# Altium integrated library IntegratedCircuit.IntLib: 182 symbols (part 2 of 3)
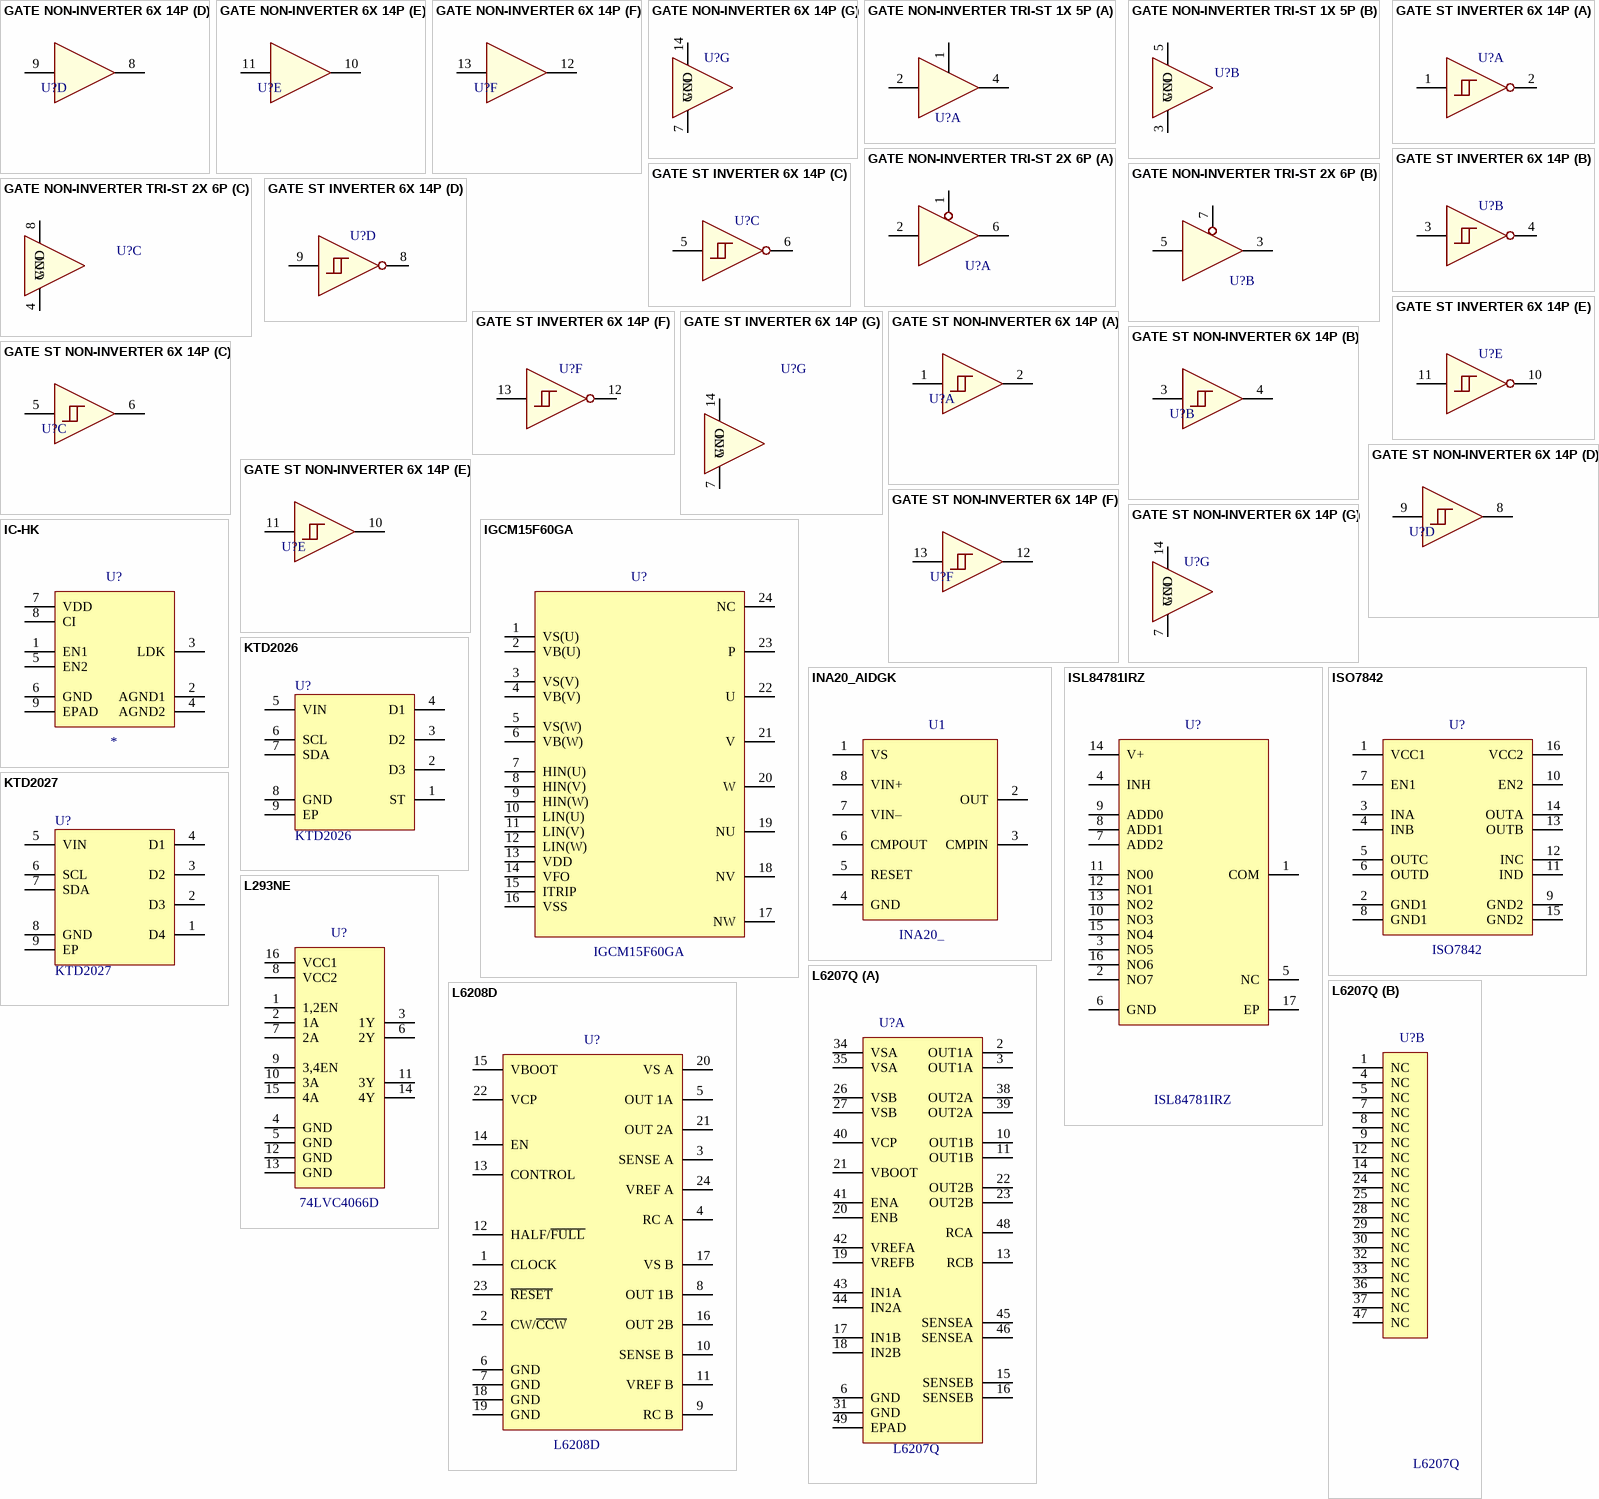
[diagram p10: symbols GATE NON-INVERTER 6X 14P to L6208D]

## L6207Q
designator U?
DMOS dual full bridge driver; Value: L6207Q
footprint QFN48 P0.5 T5.5X5.5 C7.0X7.0 H1.0 (QFN, 48-Leads, Body 7x7mm, Pitch 0.5mm, Thermal Pad 5.5x5.5mm, IPC High Density)
part A pins: 2 OUT1A, 3 OUT1A, 6 GND, 10 OUT1B, 11 OUT1B, 13 RCB, 15 SENSEB, 16 SENSEB, 17 IN1B, 18 IN2B, 19 VREFB, 20 ENB, 21 VBOOT, 22 OUT2B, 23 OUT2B, 26 VSB, 27 VSB, 31 GND, 34 VSA, 35 VSA, 38 OUT2A, 39 OUT2A, 40 VCP, 41 ENA, 42 VREFA, 43 IN1A, 44 IN2A, 45 SENSEA, 46 SENSEA, 48 RCA, 49 EPAD
part B pins: 1 NC, 4 NC, 5 NC, 7 NC, 8 NC, 9 NC, 12 NC, 14 NC, 24 NC, 25 NC, 28 NC, 29 NC, 30 NC, 32 NC, 33 NC, 36 NC, 37 NC, 47 NC

## L6208D
designator U?
DMOS driver for bipolar stepper motor; Value: L6208D
footprint SO24 P1.27 C7.5X15.4 H2.7 (SOIC, 24-Leads, Body 15.40x7.50mm, Pitch 1.27mm, IPC Medium Density)
pins: 1 CLOCK "Serial data 0. Connect to VCC through a pullup resistor.", 2 CW/~{CCW} "Serial clock 0. Connect to VCC through a pullup resistor.", 3 SENSE A "Serial data 1. Connect to VCC through a pullup resistor.", 4 RC A "Serial clock 1. Connect to VCC through a pullup resistor.", 5 OUT 1A "Serial data 2. Connect to VCC through a pullup resistor.", 6 GND "Serial clock 2. Connect to VCC through a pullup resistor.", 7 GND "Serial data 3. Connect to VCC through a pullup resistor.", 8 OUT 1B "Serial clock 3. Connect to VCC through a pullup resistor.", 9 RC B "Ground", 10 SENSE B "Serial data 4. Connect to VCC through a pullup resistor.", 11 VREF B "Serial clock 4. Connect to VCC through a pullup resistor.", 12 HALF/~{FULL} "Serial data 5. Connect to VCC through a pullup resistor.", 13 CONTROL "Serial clock 5. Connect to VCC through a pullup resistor.", 14 EN "Serial data 6. Connect to VCC through a pullup resistor.", 15 VBOOT "Serial clock 6. Connect to VCC through a pullup resistor.", 16 OUT 2B "Serial data 7. Connect to VCC through a pullup resistor.", 17 VS B "Serial clock 7. Connect to VCC through a pullup resistor.", 18 GND "Address input 2. Connect directly to VCC or ground.", 19 GND "Serial clock bus. Connect to VCC through a pullup resistor.", 20 VS A "Serial data bus. Connect to VCC through a pullup resistor.", 21 OUT 2A "Supply voltage", 22 VCP "Address input 0. Connect directly to VCC or ground.", 23 ~{RESET} "Address input 1. Connect directly to VCC or ground.", 24 VREF A "Active-low reset input. Connect to VCC through a pullup resistor, if not used."

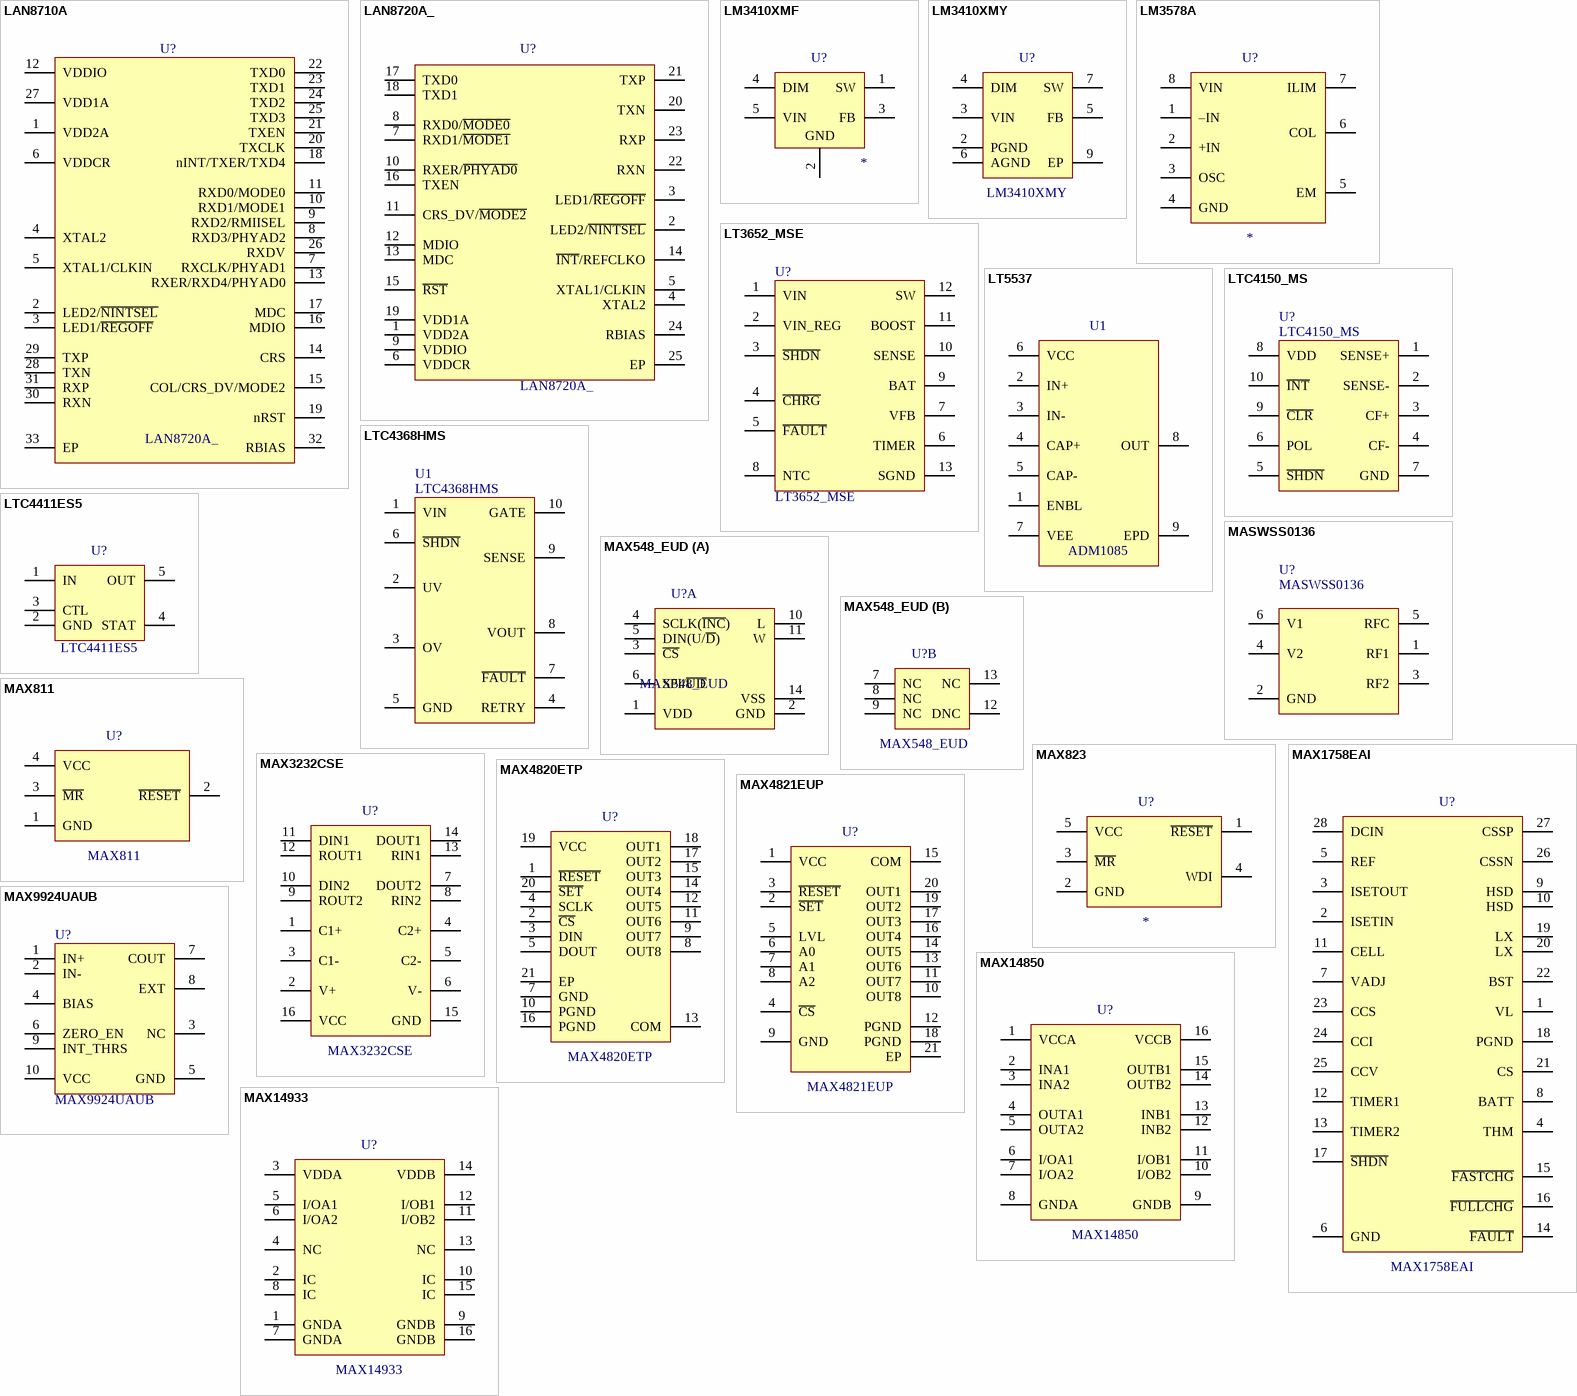
[diagram p4: symbols LAN8710A to MAX14933]

## LAN8710A
designator U?, comment LAN8720A_
RMII 10/100 Ethernet  Transceiver with HP Auto-MDIX Support; Value: LAN8720A_
footprint QFN32 P0.5 T3.2x3.2 C5.0X5.0 H1.0 (QFN32 Pitch 0.5mm, Thermal pad 3.2x3.2mm, Body 5X5mm, Heigh 1.0mm)
pins: 1 VDD2A, 2 LED2/~{NINTSEL}, 3 LED1/~{REGOFF}, 4 XTAL2, 5 XTAL1/CLKIN, 6 VDDCR, 7 RXCLK/PHYAD1, 8 RXD3/PHYAD2, 9 RXD2/RMIISEL, 10 RXD1/MODE1, 11 RXD0/MODE0, 12 VDDIO, 13 RXER/RXD4/PHYAD0, 14 CRS, 15 COL/CRS_DV/MODE2, 16 MDIO, 17 MDC, 18 nINT/TXER/TXD4, 19 nRST, 20 TXCLK, 21 TXEN, 22 TXD0, 23 TXD1, 24 TXD2, 25 TXD3, 26 RXDV, 27 VDD1A, 28 TXN, 29 TXP, 30 RXN, 31 RXP, 32 RBIAS, 33 EP

## LAN8720A_
designator U?
RMII 10/100 Ethernet  Transceiver with HP Auto-MDIX Support; Value: LAN8720A_
footprint QFN24 P0.5 T2.45X2.45 C4.0X4.0 H1.0 (QFN, 24-Leads, Body 4x4mm, Pitch 0.5mm, Thermal Pad 2.45x2.45mm, TI Recommended)
pins: 1 VDD2A "+3.3V Analog Port Power to Channel 2 and the internal regulator.", 2 LED2/~{NINTSEL}, 3 LED1/~{REGOFF}, 4 XTAL2 "External crystal output", 5 XTAL1/CLKIN, 6 VDDCR "Supplied by the on-chip regulator unless configured for regulator off mode via the REGOFF configuration strap.", 7 RXD1/~{MODE1}, 8 RXD0/~{MODE0}, 9 VDDIO "+1.6V to +3.6V variable I/O power", 10 RXER/~{PHYAD0}, 11 CRS_DV/~{MODE2}, 12 MDIO "Serial Management Interface data input/output", 13 MDC "Serial Management Interface clock", 14 ~{INT}/REFCLKO, 15 ~{RST} "System reset. This signal is active low.", 16 TXEN "Indicates that valid transmission data is presenton TXD[1:0].", 17 TXD0 "The MAC transmits data to the transceiver usingthis signal.", 18 TXD1 "The MAC transmits data to the transceiver usingthis signal.", 19 VDD1A "+3.3V Analog Port Power to Channel 1", 20 TXN "Transmit/Receive Negative Channel 1", 21 TXP "Transmit/Receive Positive Channel 1", 22 RXN "Transmit/Receive Negative Channel 2", 23 RXP "Transmit/Receive Positive Channel 2", 24 RBIAS "This pin requires connection of a 12.1k ohm (1%) resistor to ground.", 25 EP "Exposed pad (VSS) on bottom of package must be connected to ground"

## LM3410XMF
designator U?
Constant-Current Boost and SEPIC LED Driver; Value: *
footprint SOT23-5 P0.95 C1.6x3.0 H1.3 (SOT23, 5-Leads, Body 1.6x3.0mm, Pitch 0.95mm, IPC Medium Density)
pins: 1 SW, 2 GND, 3 FB, 4 DIM, 5 VIN

## LM3410XMY
designator U?
Constant-Current Boost and SEPIC LED Driver; Value: LM3410XMY
footprint TSOP8 P0.65 T1.85x1.73 C3.1x3.1 H1.1 (TSOP, 8-Leads, Body 3.1x3.1mm, Pitch 0.65mm, Thermal Pad 1.85x1.73mm, IPC Medium Density)
pins: 2 PGND, 3 VIN, 4 DIM, 5 FB, 6 AGND, 7 SW, 9 EP

## LM3578A
designator U?
Switching Regulator; Value: *
footprint SO8 P1.27 C4.0X5.0 H1.75 (8-Pin Small Outline Integrated Circuit 1.27 mm Pitch, IPC Medium Density)
pins: 1 –IN, 2 +IN, 3 OSC, 4 GND, 5 EM, 6 COL, 7 ILIM, 8 VIN

## LT3652_MSE
designator U?
Power Tracking 2A Battery Charger for Solar Power; Value: LT3652_MSE
footprint MSOP12 P0.65 T2.9x1.7 C3.0X4.0 H0.9 (MSOP, 12-Leads, Body 4.0x3.0mm, Pitch 0.65mm, Thermal Pad 2.9x1.7mm, IPC Medium Density)
pins: 1 VIN "Charger Input Supply. VIN operating range is 4.95V to 32V. VIN must be 3.3V greater than the programmed output battery float voltage (VBAT(FLT)) for reliable start-up. (VIN - VBAT(FLT)) >= 0.75V is the minimum operating (See Datasheet)", 2 VIN_REG "Input Voltage Regulation Reference. Maximum charge current is reduced when this pin is below 2.7V. Connecting a resistor divider from VIN to this pin enables programming of minimum operational VIN voltage. This is typically (See Datasheet)", 3 ~{SHDN} "Precision Threshold Shutdown Pin. The enable threshold is 1.2V (rising), with 120mV of input hysteresis. When in shutdown mode, all charging functions are disabled. The precision threshold allows use of the S\H\D\N\ pin to (See Datasheet)", 4 ~{CHRG} "Open-Collector Charger Status Output; typically pulled up through a resistor to a reference voltage. This status pin can be pulled up to voltages as high as VIN when disabled, and can sink currents up to 10mA when enabled. (See Datasheet)", 5 ~{FAULT} "Open-Collector Charger Status Output; typically pulled up through a resistor to a reference voltage. This status pin can be pulled up to voltages as high as VIN when disabled, and can sink currents up to 10mA when enabled. (See Datasheet)", 6 TIMER "End-Of-Cycle Timer Programming Pin. If a timer-based charge termination is desired, connect a capacitor from this pin to ground. Full charge end-of-cycle time (in hours) is programmed with this capacitor following the (See Datasheet)", 7 VFB "Battery Float Voltage Feedback Reference. The charge function operates to achieve a final float voltage of 3.3V on this pin. Output battery float voltage (VBAT(FLT)) is programmed using a resistor divider. VBAT(FLT) can be (See Datasheet)", 8 NTC "Battery Temperature Monitor Pin. This pin is the input to the NTC (Negative Temperature Coefficient) thermistor temperature monitoring circuit. This function is enabled by connecting a 10kohm, B = 3380 NTC thermistor from (See Datasheet)", 9 BAT "Charger Output Monitor Pin. Connect a 10uF decoupling capacitance (CBAT) to ground. Depending on application requirements, larger value decoupling capacitors may be required. The charge function operates to achieve the (See Datasheet)", 10 SENSE "Charge Current Sense Pin. Connect the inductor sense resistor (RSENSE) from the SENSE pin to the BAT pin. The voltage across this resistor sets the average charge current. The maximum charge current (ICHG(MAX)) corresponds (See Datasheet)", 11 BOOST "Bootstrapped Supply Rail for Switch Drive. This pin facilitates saturation of the switch transistor. Connect a 1uF or greater capacitor from the BOOST pin to the SW pin. Operating range of this pin is 0V to 8.5V, referenced (See Datasheet)", 12 SW "Switch Output Pin. This pin is the output of the charger switch, and corresponds to the emitter of the switch transistor. When enabled, the switch shorts the SW pin to the VIN supply. The drive circuitry for this switch is (See Datasheet)", 13 SGND "Ground Reference and Backside Exposed Lead Frame Thermal Connection. Solder the exposed lead frame to the PCB ground plane."

## LT5537
designator U1, comment ADM1085
Wide Dynamic Range RF/IF Log Detector; Value: ADM1085
footprint DFN8 P0.5 T0.6X1.2 C2.0X3.0 H0.8 (DFN 8-Leads, Body 2.00x3.00mm, Pitch 0.5mm)
pins: 1 ENBL, 2 IN+, 3 IN-, 4 CAP+, 5 CAP-, 6 VCC, 7 VEE, 8 OUT, 9 EPD

## LTC4150_MS
designator U?
Coulomb Counter/Battery Gas Gauge; Value: LTC4150_MS
footprint MSOP10 P0.5 C3.0X3.0 H1.1 (MSOP, 10-Leads, Body 3.0x3.0mm, Pitch 0.50mm, IPC Medium Density)
pins: 1 SENSE+ "Positive Sense Input. This is the noninverting current sense input. Connect SENSE+ to the load and charger side of the sense resistor. Full-scale current sense input is 50mV. SENSE+ must be within 60mV of VDD for proper (See Datasheet)", 2 SENSE- "Negative Sense Input. This is the inverting current sense input. Connect SENSE- to the positive battery terminal side of the sense resistor. Full-scale current sense input is 50mV. SENSE- must be within 60mV of VDD for (See Datasheet)", 3 CF+ "Filter Capacitor Positive Input. A capacitor connected between CF + and CF - filters and averages noise and fast battery current variations. A 4.7uF value is recommended. If filtering is not desired, leave CF + and CF - (See Datasheet)", 4 CF- "Filter Capacitor Negative Input. A capacitor connected between CF + and CF - filters and averages noise and fast battery current variations. A 4.7uF value is recommended. If filtering is not desired, leave CF + and CF - (See Datasheet)", 5 ~{SHDN} "Shutdown Digital Input. When asserted low, S\H\D\N\ forces the LTC4150 into its low current consumption power-down mode and resets the part. In applications with logic supply VCC > VDD, a resistive divider must be used (See Datasheet)", 6 POL "Battery Current Polarity Open-Drain Output. POL indicates the most recent battery current polarity when I\N\T\ is high. A low state indicates the current is fl owing out of the battery while high impedance means the current (See Datasheet)", 7 GND "Ground. Connect directly to the negative battery terminal.", 8 VDD "Positive Power Supply. Connect to the load and charger side of the sense resistor. SENSE+ also connects to VDD. VDD operating range is 2.7V to 8.5V. Bypass VDD with 4.7uF capacitor.", 9 ~{CLR} "Clear Interrupt Digital Input. When asserted low for more than 20us, C\L\R\ resets I\N\T\ high. Charge counting is unaffected. I\N\T\ may be directly connected to C\L\R\. In this case the LTC4150 will capture each assertion (See Datasheet)", 10 ~{INT} "Charge Count Interrupt Open-Drain Output. I\N\T\ latches low every 1/(VSENSE • GVF) seconds and is reset by a low pulse at C\L\R\. I\N\T\ is an open-drain output and can be pulled up to any logic supply of up to 9V. I(See Datasheet)"

## LTC4368HMS
designator U1
100V UV/OV and Reverse Protection Controller with Bidirectional Circuit Breaker; Value: LTC4368HMS
footprint MSOP10 P0.5 C3.0X3.0 H1.1 (MSOP, 10-Leads, Body 3.0x3.0mm, Pitch 0.50mm, IPC Medium Density)
pins: 1 VIN, 2 UV, 3 OV, 4 RETRY, 5 GND, 6 ~{SHDN}, 7 ~{FAULT}, 8 VOUT, 9 SENSE, 10 GATE

## LTC4411ES5
designator U?
Ideal Diode; Value: LTC4411ES5
footprint SOT23-5 P0.95 C1.6x3.0 H1.3 (SOT23, 5-Leads, Body 1.6x3.0mm, Pitch 0.95mm, IPC Medium Density)
pins: 1 IN, 2 GND, 3 CTL, 4 STAT, 5 OUT

## MASWSS0136
designator U?
GaAs SPDT SwitchDC -3.0 GHz; Value: MASWSS0136
footprint SC70-6 P0.65 C1.4x2.2 H1.0 (SC70, 6-Leads, Body 2.2x1.40mm, Pitch 0.65mm, IPC Medium Density)
pins: 1 RF1, 2 GND, 3 RF2, 4 V2, 5 RFC, 6 V1

## MAX548_EUD
designator U?
10-Bit, Nonvolatile, Linear-Taper Digital  Potentiometers; Value: MAX548_EUD
footprint TSSOP14 P0.65 C4.4x5.0 H1.1 (TSSOP, 14-Leads, Body 5x4.4mm, Pitch 0.65mm, IPC Medium Density)
part A pins: 1 VDD "Positive Power-Supply Input (+2.7V =< VDD =< +5.25V). Bypass VDD to GND with a 0.1uF ceramic capacitor as close to the device as possible.", 2 GND "Ground", 3 ~{CS} "Active-Low Digital Input Chip Select", 4 SCLK(~{INC}), 5 DIN(U/~{D}), 6 SPI/~{UD} "Interface-Mode Select. Select serial SPI interface when SPI/UD = 1. Select serial up/down interface when SPI/UD = 0.", 10 L "Low Terminal", 11 W "Wiper Terminal", 14 VSS "Negative Power-Supply Input. For single-supply operation, connect VSS to GND. For dualsupply operation, -2.5V =< VSS =< -0.2V as long as (VDD - VSS) =< +5.25V. Bypass VSS to GND with a 0.1uF ceramic capacitor as close to the (See Datasheet)"
part B pins: 7 NC "No Connection. Not internally connected.", 8 NC "No Connection. Not internally connected.", 9 NC "No Connection. Not internally connected.", 12 DNC "Do Not Connect. Leave unconnected for proper operation.", 13 NC "No Connection. Not internally connected."

## MAX811
designator U?
4-Pin μP Voltage Monitors with Manual Reset Input; Value: MAX811
footprint SOT143 P1.9 C1.4X3.0 H1.1 (SOT143, 4-Leads, Body 1.4X3.0mm, Pitch 1.90mm, IPC Medium Density)
pins: 1 GND, 2 ~{RESET}, 3 ~{MR}, 4 VCC

## MAX823
designator U?
Microprocessor Supervisory Circuits; Value: *
footprint SC70-5 P0.65 C1.4x2.2 H1.0 (SC70, 5-Leads, Body 2.2x1.40mm, Pitch 0.65mm, IPC Medium Density)
footprint SOT23-5 P0.95 C1.6x3.0 H1.3 (SOT23, 5-Leads, Body 1.6x3.0mm, Pitch 0.95mm, IPC Medium Density)
pins: 1 ~{RESET}, 2 GND, 3 ~{MR}, 4 WDI, 5 VCC

## MAX1758EAI
designator U?
Stand-Alone, Switch-Mode  Li+ Battery Charger; Value: MAX1758EAI
footprint SSOP28 P0.65 C5.4X10.4 H2.0 (SOP, 28-Leads, Body 5.40X10.40mm, Pitch 0.65mm, IPC Medium Density)
pins: 1 VL, 2 ISETIN, 3 ISETOUT, 4 THM, 5 REF, 6 GND, 7 VADJ, 8 BATT, 9 HSD, 10 HSD, 11 CELL, 12 TIMER1, 13 TIMER2, 14 ~{FAULT}, 15 ~{FASTCHG}, 16 ~{FULLCHG}, 17 ~{SHDN}, 18 PGND, 19 LX, 20 LX, 21 CS, 22 BST, 23 CCS, 24 CCI, 25 CCV, 26 CSSN, 27 CSSP, 28 DCIN

## MAX3232CSE
designator U?
Low-Power, up to 1Mbps, True RS-232  Transceivers; Value: MAX3232CSE
footprint SO16 P1.27 C4.0x10.2 H1.75 (SOIC, 16-Leads, Body 4.0x10.20mm, Pitch 1.27mm, IPC Medium Density)
pins: 1 C1+, 2 V+, 3 C1-, 4 C2+, 5 C2-, 6 V-, 7 DOUT2, 8 RIN2, 9 ROUT2, 10 DIN2, 11 DIN1, 12 ROUT1, 13 RIN1, 14 DOUT1, 15 GND, 16 VCC

## MAX4820ETP
designator U?
8-Channel Relay Driver; Value: MAX4820ETP
footprint QFN20 P0.5 T2.05x2.05 C4.0x4.0 H0.85 (QFN20 P0.5 T2.05x2.0 C4.0x4.0 H0.85)
pins: 1 ~{RESET}, 2 ~{CS}, 3 DIN, 4 SCLK, 5 DOUT, 7 GND, 8 OUT8, 9 OUT7, 10 PGND, 11 OUT6, 12 OUT5, 13 COM, 14 OUT4, 15 OUT3, 16 PGND, 17 OUT2, 18 OUT1, 19 VCC, 20 ~{SET}, 21 EP

## MAX4821EUP
designator U?
Low-Power, up to 1Mbps, True RS-232  Transceivers; Value: MAX4821EUP
footprint TSSOP20 P0.65 T3.05X4.1 C6.5X4.0 H1.2 (TSOP, 20-Leads, Body 6.60x4.0mm, Pitch 0.65mm, IPC Medium Density)
pins: 1 VCC, 2 ~{SET}, 3 ~{RESET}, 4 ~{CS}, 5 LVL, 6 A0, 7 A1, 8 A2, 9 GND, 10 OUT8, 11 OUT7, 12 PGND, 13 OUT6, 14 OUT5, 15 COM, 16 OUT4, 17 OUT3, 18 PGND, 19 OUT2, 20 OUT1, 21 EP

## MAX9924UAUB
designator U?
Variable Reluctance Sensor Interfaces with / Differential Input and Adaptive Peak Threshold; Value: MAX9924UAUB
footprint MSOP10 P0.5 C3.0X3.0 H1.1 (MSOP, 10-Leads, Body 3.0x3.0mm, Pitch 0.50mm, IPC Medium Density)
pins: 1 IN+ "Noninverting Input", 2 IN- "Inverting Input", 3 NC "No Connection. Not internally connected.", 4 BIAS "Input Bias. Connect to an external resistor-divider and bypass to ground with a 0.1uF and 10uF capacitor.", 5 GND "Ground", 6 ZERO_EN "Zero-Crossing Enable. Mode configuration pin, internally pulled up to VCC with 10k ohm resistor.", 7 COUT "Comparator Output. Open-drain output, connect a 10k ohm pullup resistor from COUT to VPULLUP.", 8 EXT "External Reference Input. Leave EXT unconnected in Modes A1, A2. Apply an external voltage in Modes B, C.", 9 INT_THRS "Internal Adaptive Threshold. Mode configuration pin.", 10 VCC "Power Supply"

## MAX14850
designator U?
Six-Channel Digital Isolator; Value: MAX14850
footprint SO16 P1.27 C4.0x10.2 H1.75 (SOIC, 16-Leads, Body 4.0x10.20mm, Pitch 1.27mm, IPC Medium Density)
pins: 1 VCCA, 2 INA1, 3 INA2, 4 OUTA1, 5 OUTA2, 6 I/OA1, 7 I/OA2, 8 GNDA, 9 GNDB, 10 I/OB2, 11 I/OB1, 12 INB2, 13 INB1, 14 OUTB2, 15 OUTB1, 16 VCCB

## MAX14933
designator U?
Two-Channel, 2.75kVRMS I2C Isolator; Value: MAX14933
footprint SO16 P1.27 C4.0x10.2 H1.75 (SOIC, 16-Leads, Body 4.0x10.20mm, Pitch 1.27mm, IPC Medium Density)
pins: 1 GNDA, 2 IC, 3 VDDA, 4 NC, 5 I/OA1, 6 I/OA2, 7 GNDA, 8 IC, 9 GNDB, 10 IC, 11 I/OB2, 12 I/OB1, 13 NC, 14 VDDB, 15 IC, 16 GNDB

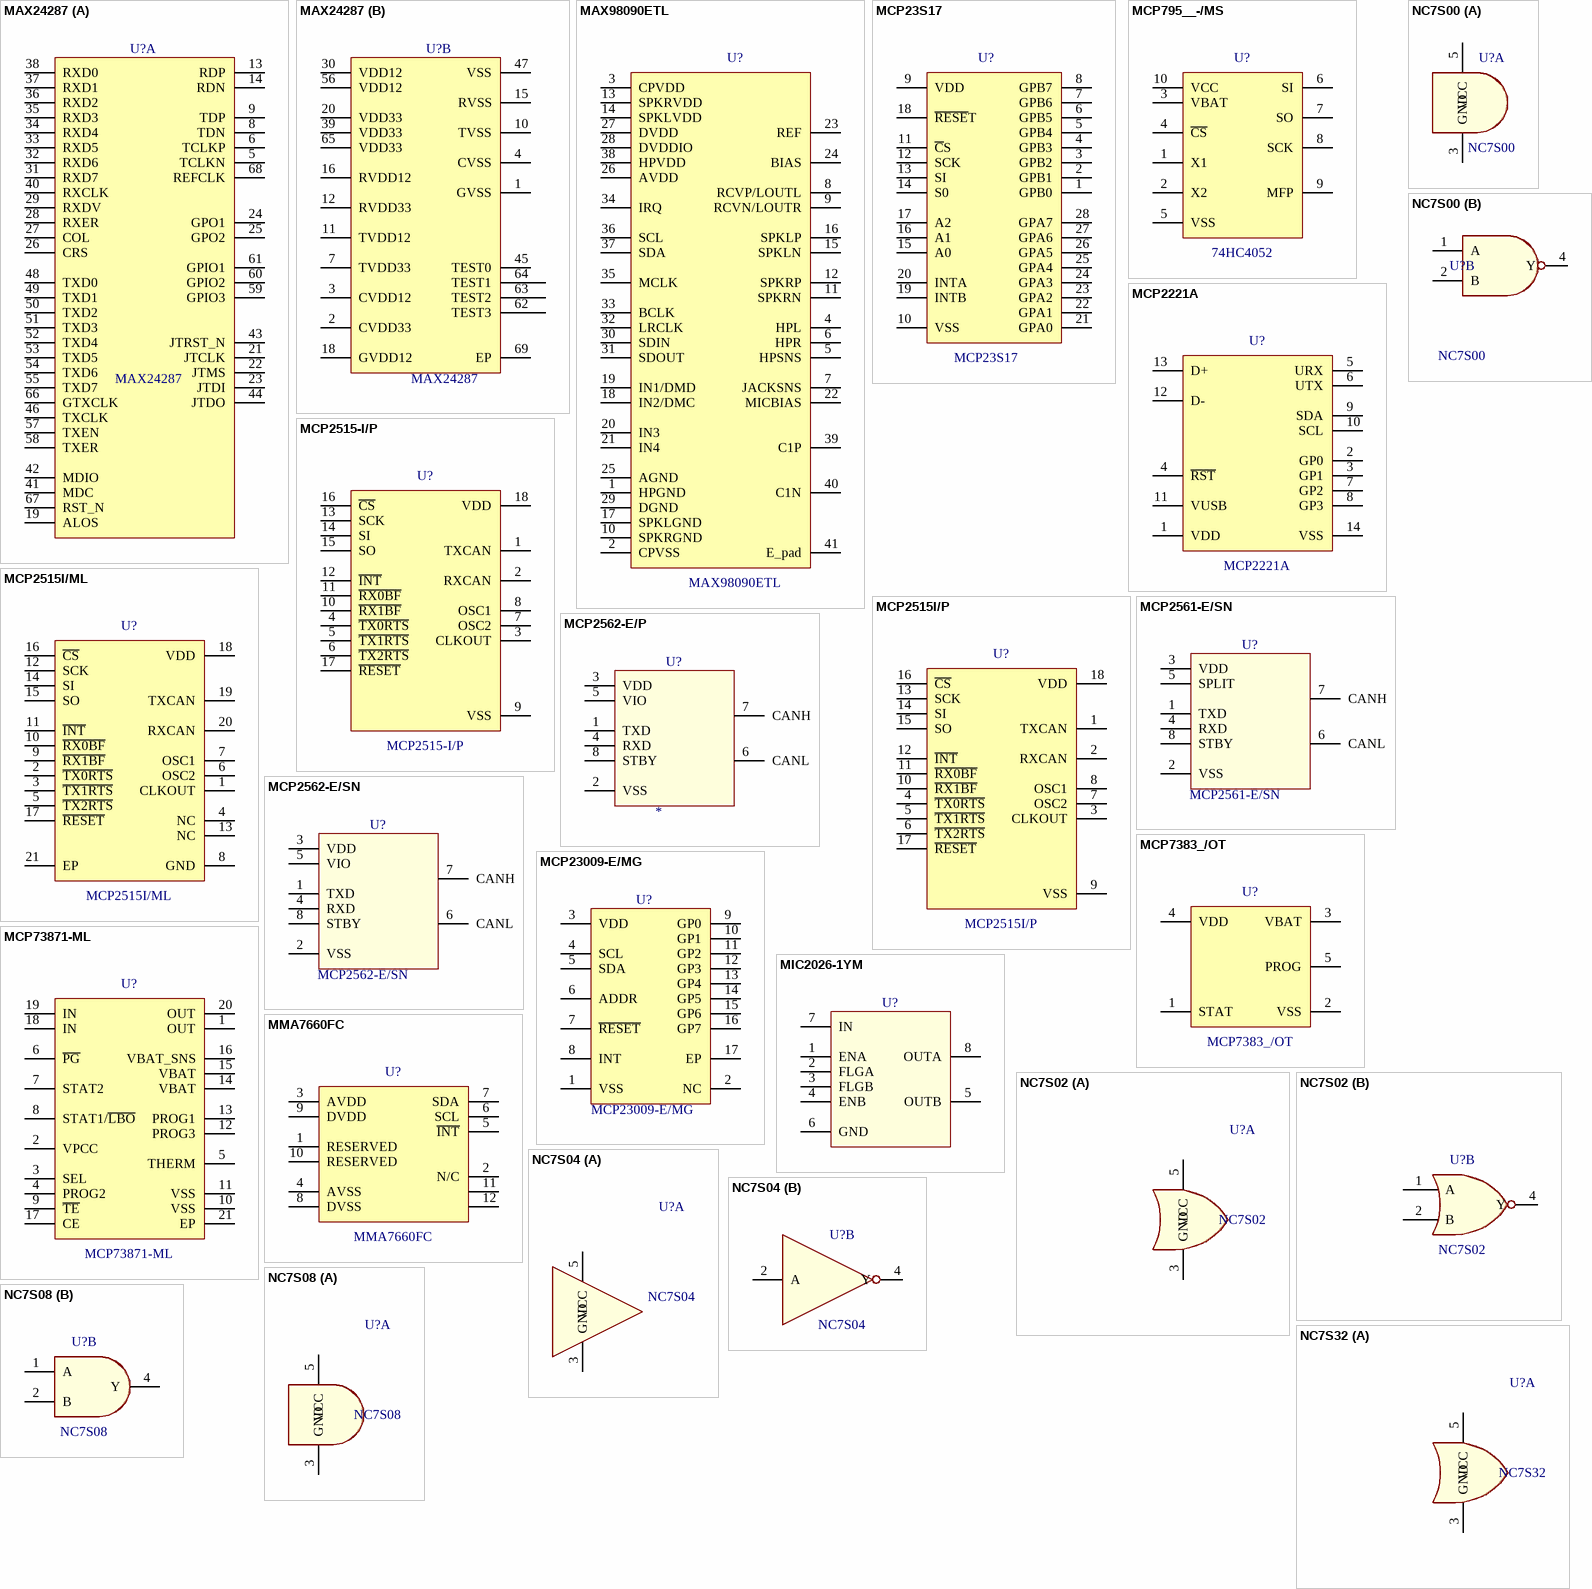
[diagram p5: symbols MAX24287 to NC7S32]

## MAX24287
designator U?
1Gbps Parallel to Serial MII Converter; Value: MAX24287
footprint QFN68 P0.4 T6.25x6.25 C8.0x8.0 H0.8 (QFN, 68-Leads, Body 8.00x8.00mm, Pitch 0.40mm, Thermal Pad 6.25x6.25mm, IPC Medium Density)
part A pins: 5 TCLKN, 6 TCLKP, 8 TDN, 9 TDP, 13 RDP, 14 RDN, 19 ALOS, 21 JTCLK, 22 JTMS, 23 JTDI, 24 GPO1, 25 GPO2, 26 CRS, 27 COL, 28 RXER, 29 RXDV, 31 RXD7, 32 RXD6, 33 RXD5, 34 RXD4, 35 RXD3, 36 RXD2, 37 RXD1, 38 RXD0, 40 RXCLK, 41 MDC, 42 MDIO, 43 JTRST_N, 44 JTDO, 46 TXCLK, 48 TXD0, 49 TXD1, 50 TXD2, 51 TXD3, 52 TXD4, 53 TXD5, 54 TXD6, 55 TXD7, 57 TXEN, 58 TXER, 59 GPIO3, 60 GPIO2, 61 GPIO1, 66 GTXCLK, 67 RST_N, 68 REFCLK
part B pins: 1 GVSS, 2 CVDD33, 3 CVDD12, 4 CVSS, 7 TVDD33, 10 TVSS, 11 TVDD12, 12 RVDD33, 15 RVSS, 16 RVDD12, 18 GVDD12, 20 VDD33, 30 VDD12, 39 VDD33, 45 TEST0, 47 VSS, 56 VDD12, 62 TEST3, 63 TEST2, 64 TEST1, 65 VDD33, 69 EP

## MAX98090ETL
designator U?
Ultra-Low Power Stereo Audio Codec; Value: MAX98090ETL
footprint QFN40 P0.4 T3.6X3.6 C5.0X5.0 H0.8 (QFN40 Pitch0.4 Thermal3.6X3.6 Case5.0X5.0 Height0.8)
pins: 1 HPGND, 2 CPVSS, 3 CPVDD, 4 HPL, 5 HPSNS, 6 HPR, 7 JACKSNS, 8 RCVP/LOUTL, 9 RCVN/LOUTR, 10 SPKRGND, 11 SPKRN, 12 SPKRP, 13 SPKRVDD, 14 SPKLVDD, 15 SPKLN, 16 SPKLP, 17 SPKLGND, 18 IN2/DMC, 19 IN1/DMD, 20 IN3, 21 IN4, 22 MICBIAS, 23 REF, 24 BIAS, 25 AGND, 26 AVDD, 27 DVDD, 28 DVDDIO, 29 DGND, 30 SDIN, 31 SDOUT, 32 LRCLK, 33 BCLK, 34 IRQ, 35 MCLK, 36 SCL, 37 SDA, 38 HPVDD, 39 C1P, 40 C1N, 41 E_pad

## MCP23S17
designator U?
16-Bit I/O Expander with Serial Interface; Value: MCP23S17
footprint SSOP28 P0.65 C5.4X10.4 H2.0 (SOP, 28-Leads, Body 10.40x5.40mm, Pitch 0.65mm, IPC Medium Density)
footprint SO28 P1.27 C7.5X17.9 H2.7 (SOIC, 28-Leads, Body 17.9x7.50mm, Pitch 1.27mm, IPC Medium Density)
pins: 1 GPB0, 2 GPB1, 3 GPB2, 4 GPB3, 5 GPB4, 6 GPB5, 7 GPB6, 8 GPB7, 9 VDD, 10 VSS, 11 ~{C}S, 12 SCK, 13 SI, 14 S0, 15 A0, 16 A1, 17 A2, 18 ~{RESE}T, 19 INTB, 20 INTA, 21 GPA0, 22 GPA1, 23 GPA2, 24 GPA3, 25 GPA4, 26 GPA5, 27 GPA6, 28 GPA7

## MCP795__-/MS
designator U?, comment 74HC4052
3V SPI Real-Time Clock Calendar with Battery Switchover; Value: 74HC4052
footprint MSOP10 P0.5 C3.0X3.0 H1.1 (MSOP, 10-Leads, Body 3.0x3.0mm, Pitch 0.50mm, IPC Medium Density)
pins: 1 X1, 2 X2, 3 VBAT, 4 ~{CS}, 5 VSS, 6 SI, 7 SO, 8 SCK, 9 MFP, 10 VCC

## MCP2221A
designator U?
USB2.0 toI2C/UART Protocol Converter with GPIO; Value: MCP2221A
footprint SO14 P1.27 C4.0X8.8 H1.75 (SOIC, 14-Leads, Body 4.0X8.8mm, Pitch 1.27mm, IPC Medium Density)
pins: 1 VDD, 2 GP0, 3 GP1, 4 ~{RST}, 5 URX, 6 UTX, 7 GP2, 8 GP3, 9 SDA, 10 SCL, 11 VUSB, 12 D-, 13 D+, 14 VSS

## MCP2515-I/P
designator U?
Stand-Alone CAN Controller with SPI Interface; Value: MCP2515-I/P
footprint DIP18 P2.54 W7.62 H5.0 (14-Pin Dual in Line Integrated Circuit 2.54 Pitch, 7.62 Width, Case 22.4x6mm)
pins: 1 TXCAN, 2 RXCAN, 3 CLKOUT, 4 ~{TX0RTS}, 5 ~{TX1RTS}, 6 ~{TX2RTS}, 7 OSC2, 8 OSC1, 9 VSS, 10 ~{RX1BF}, 11 ~{RX0BF}, 12 ~{INT}, 13 SCK, 14 SI, 15 SO, 16 ~{CS}, 17 ~{RESET}, 18 VDD

## MCP2515I/ML
designator U?
Stand-Alone CAN Controller with SPI Interface; Value: MCP2515I/ML
footprint QFN20 P0.5 T2.05x2.05 C4.0x4.0 H0.85 (QFN20 P0.5 T2.05x2.0 C4.0x4.0 H0.85)
pins: 1 CLKOUT, 2 ~{TX0RTS}, 3 ~{TX1RTS}, 4 NC, 5 ~{TX2RTS}, 6 OSC2, 7 OSC1, 8 GND, 9 ~{RX1BF}, 10 ~{RX0BF}, 11 ~{INT}, 12 SCK, 13 NC, 14 SI, 15 SO, 16 ~{CS}, 17 ~{RESET}, 18 VDD, 19 TXCAN, 20 RXCAN, 21 EP

## MCP2515I/P
designator U?
Stand-Alone CAN Controller with SPI Interface; Value: MCP2515I/P
footprint DIP18 P2.54 W7.62 H5.0 (14-Pin Dual in Line Integrated Circuit 2.54 Pitch, 7.62 Width, Case 22.4x6mm)
pins: 1 TXCAN, 2 RXCAN, 3 CLKOUT, 4 ~{TX0RTS}, 5 ~{TX1RTS}, 6 ~{TX2RTS}, 7 OSC2, 8 OSC1, 9 VSS, 10 ~{RX1BF}, 11 ~{RX0BF}, 12 ~{INT}, 13 SCK, 14 SI, 15 SO, 16 ~{CS}, 17 ~{RESET}, 18 VDD

## MCP2561-E/SN
designator U?
High-Speed CAN Transceiver; Value: MCP2561-E/SN
footprint SO8 P1.27 C4.0X5.0 H1.75 (8-Pin Small Outline Integrated Circuit 1.27 mm Pitch, IPC Medium Density)
pins: 1 TXD, 2 VSS, 3 VDD, 4 RXD, 5 SPLIT, 6 CANL, 7 CANH, 8 STBY

## MCP2562-E/P
designator U?
High-Speed CAN Transceiver; Value: *
footprint DIP8 P2.54 W7.62 H5.0 (8-Pin Dual in Line Integrated Circuit 2.54 Pitch, 7.62 Width, Case 10x6mm)
pins: 1 TXD, 2 VSS, 3 VDD, 4 RXD, 5 VIO, 6 CANL, 7 CANH, 8 STBY

## MCP2562-E/SN
designator U?
High-Speed CAN Transceiver; Value: MCP2562-E/SN
footprint SO8 P1.27 C4.0X5.0 H1.75 (8-Pin Small Outline Integrated Circuit 1.27 mm Pitch, IPC Medium Density)
pins: 1 TXD, 2 VSS, 3 VDD, 4 RXD, 5 VIO, 6 CANL, 7 CANH, 8 STBY

## MCP7383_/OT
designator U?
3V SPI Real-Time Clock Calendar with Battery Switchover; Value: MCP7383_/OT
footprint SOT23-5 P0.95 C1.6x3.0 H1.3 (SOT23, 5-Leads, Body 1.6x3.0mm, Pitch 0.95mm, IPC Medium Density)
pins: 1 STAT, 2 VSS, 3 VBAT, 4 VDD, 5 PROG

## MCP23009-E/MG
designator U?
8-Bit I/O Expander with Open-Drain Outputs; Value: MCP23009-E/MG
footprint QFN16 P0.5 T1.5x1.5 C3.0x3.0 H1.0
pins: 1 VSS, 2 NC, 3 VDD, 4 SCL, 5 SDA, 6 ADDR, 7 ~{RESET}, 8 INT, 9 GP0, 10 GP1, 11 GP2, 12 GP3, 13 GP4, 14 GP5, 15 GP6, 16 GP7, 17 EP

## MCP73871-ML
designator U?
Li-Ion/Li-Po Battery Charge Management Controller; Value: MCP73871-ML
footprint QFN20 P0.5 T2.05x2.05 C4.0x4.0 H0.85 (QFN20 P0.5 T2.05x2.0 C4.0x4.0 H0.85)
pins: 1 OUT, 2 VPCC, 3 SEL, 4 PROG2, 5 THERM, 6 ~{PG}, 7 STAT2, 8 STAT1/~{LBO}, 9 ~{TE}, 10 VSS, 11 VSS, 12 PROG3, 13 PROG1, 14 VBAT, 15 VBAT, 16 VBAT_SNS, 17 CE, 18 IN, 19 IN, 20 OUT, 21 EP

## MIC2026-1YM
designator U?, comment value  (value not drawn)
Dual-Channel Power Distribution Switch; value: *
footprint SO8 P1.27 C4.0X5.0 H1.75 (8-Pin Small Outline Integrated Circuit 1.27 mm Pitch, IPC Medium Density)
pins: 1 ENA, 2 FLGA, 3 FLGB, 4 ENB, 5 OUTB, 6 GND, 7 IN, 8 OUTA

## MMA7660FC
designator U?
3-Axis Orientation/Motion  Detection Sensor ±1.5 g; Value: MMA7660FC
footprint DFN-COL 12 P0.5 C3.0X3.0 H1.0 (DUAL FLAT NO LEAD COL PACKAGE 12-Leads, Body 3.00x3.00mm, Pitch 0.50mm)
pins: 1 RESERVED, 2 N/C, 3 AVDD, 4 AVSS, 5 ~{INT}, 6 SCL, 7 SDA, 8 DVSS, 9 DVDD, 10 RESERVED, 11, 12

## NC7S00
designator U?
Single 2 input NAND gate.; Value: NC7S00
footprint SOT23-5 P0.95 C1.6x3.0 H1.3 (SOT23, 5-Leads, Body 1.6x3.0mm, Pitch 0.95mm, IPC Medium Density)
footprint SC70-5 P0.65 C1.4x2.2 H1.0 (SC70, 5-Leads, Body 2.2x1.40mm, Pitch 0.65mm, IPC Medium Density)
part A pins: 3 GND, 5 VCC
part B pins: 1 A, 2 B, 4 Y

## NC7S02
designator U?
Single 2 input NOR gate.; Value: NC7S02
footprint SOT23-5 P0.95 C1.6x3.0 H1.3 (SOT23, 5-Leads, Body 1.6x3.0mm, Pitch 0.95mm, IPC Medium Density)
footprint SC70-5 P0.65 C1.4x2.2 H1.0 (SC70, 5-Leads, Body 2.2x1.40mm, Pitch 0.65mm, IPC Medium Density)
part A pins: 3 GND, 5 VCC
part B pins: 1 A, 2 B, 4 Y

## NC7S04
designator U?
Single Inverter; Value: NC7S04
footprint SOT23-5 P0.95 C1.6x3.0 H1.3 (SOT23, 5-Leads, Body 1.6x3.0mm, Pitch 0.95mm, IPC Medium Density)
part A pins: 3 GND, 5 VCC
part B pins: 2 A, 4 Y

## NC7S08
designator U?
Single 2 input AND gate.; Value: NC7S08
footprint SOT23-5 P0.95 C1.6x3.0 H1.3 (SOT23, 5-Leads, Body 1.6x3.0mm, Pitch 0.95mm, IPC Medium Density)
footprint SC70-5 P0.65 C1.4x2.2 H1.0 (SC70, 5-Leads, Body 2.2x1.40mm, Pitch 0.65mm, IPC Medium Density)
part A pins: 3 GND, 5 VCC
part B pins: 1 A, 2 B, 4 Y

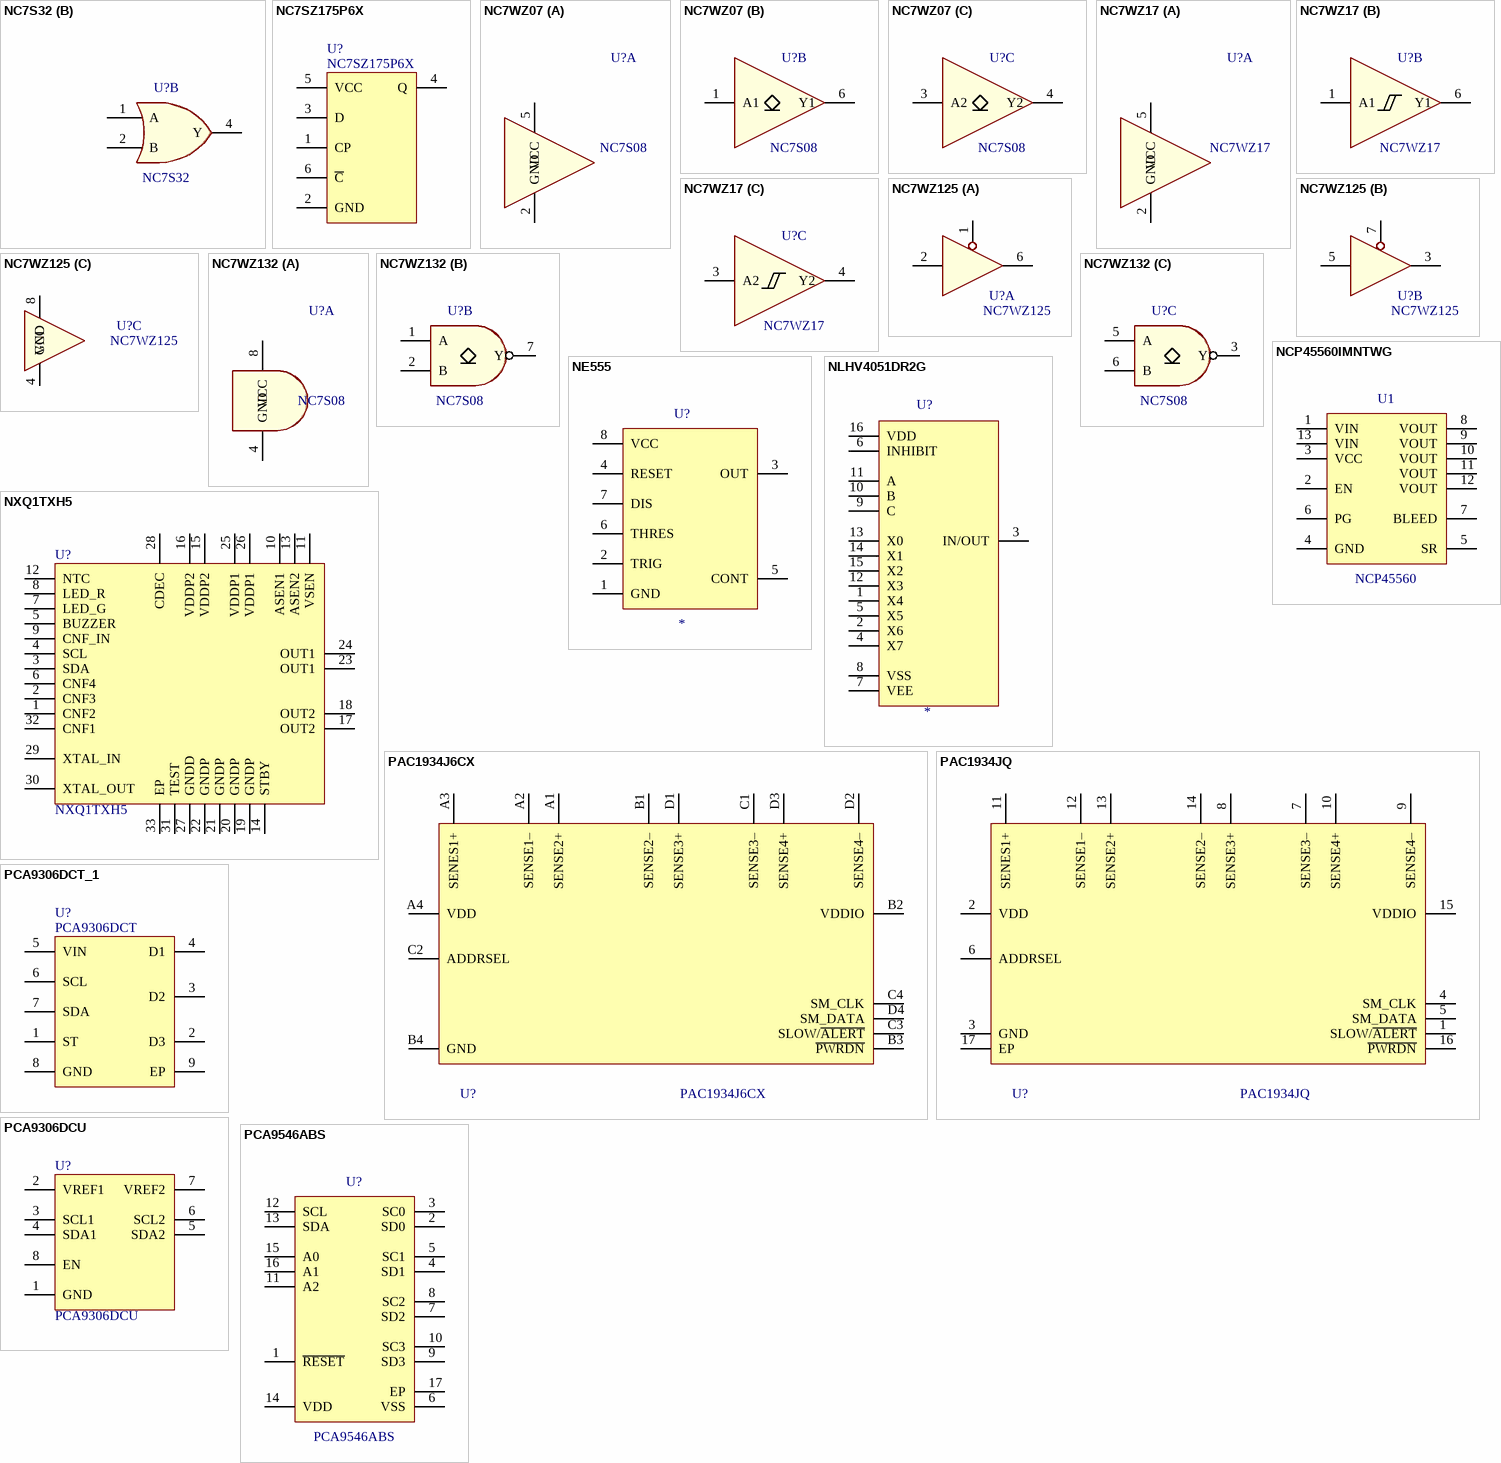
[diagram p6: symbols NC7S32 to PCA9546ABS]

## NC7S32
designator U?
Single 2 input OR gate.; Value: NC7S32
footprint SOT23-5 P0.95 C1.6x3.0 H1.3 (SOT23, 5-Leads, Body 1.6x3.0mm, Pitch 0.95mm, IPC Medium Density)
footprint SC70-5 P0.65 C1.4x2.2 H1.0 (SC70, 5-Leads, Body 2.2x1.40mm, Pitch 0.65mm, IPC Medium Density)
part A pins: 3 GND, 5 VCC
part B pins: 1 A, 2 B, 4 Y

## NC7SZ175P6X
designator U?
TinyLogic UHS D-Type Flip-Flop with Asynchronous Clear; Value: NC7SZ175P6X
footprint SC70-6 P0.65 C1.4x2.2 H1.0 (SC70, 6-Leads, Body 2.2x1.40mm, Pitch 0.65mm, IPC Medium Density)
pins: 1 CP, 2 GND, 3 D, 4 Q, 5 VCC, 6 ~{C}

## NC7WZ07
designator U?, comment NC7S08
Dual Buffer Open-Drain Outputs; Value: NC7S08
footprint SOT23-6 P0.95 C1.5x3.0 H1.3 (SOT23, 6-Leads, Body 1.6x3.0mm, Pitch 0.95mm, IPC Medium Density)
part A pins: 2 GND, 5 VCC
part B pins: 1 A1, 6 Y1
part C pins: 3 A2, 4 Y2

## NC7WZ17
designator U?
TinyLogic UHS Dual Buffer with Schmitt Trigger Inputs; Value: NC7WZ17
footprint SC70-6 P0.65 C1.4x2.2 H1.0 (SC70, 6-Leads, Body 2.2x1.40mm, Pitch 0.65mm, IPC Medium Density)
part A pins: 2 GND, 5 VCC
part B pins: 1 A1, 6 Y1
part C pins: 3 A2, 4 Y2

## NC7WZ125
designator U?
Dual Buffer Tri-STATE Output; Value: NC7WZ125
footprint MSOP8 P0.5 C2.1X2.3 H0.9 (TSSOP, 8-Leads, Body 2.10x2.30mm, Pitch 0.50mm, IPC Medium Density)
part A pins: 1 OE1, 2 A1, 6 ~{O0}
part B pins: 3 ~{O0}, 5 A2, 7 ~{OE2}
part C pins: 4 GND, 8 VCC

## NC7WZ132
designator U?, comment NC7S08
Dual 2 input NAND gate with Schmitt Trigger Inputs; Value: NC7S08
footprint MSOP8 P0.5 C2.1X2.3 H0.9 (TSSOP, 8-Leads, Body 2.10x2.30mm, Pitch 0.50mm, IPC Medium Density)
part A pins: 4 GND, 8 VCC
part B pins: 1 A, 2 B, 7 Y
part C pins: 3 Y, 5 A, 6 B

## NCP45560IMNTWG
designator U1, comment NCP45560
Controlled Load Switch with Low RON; Value: NCP45560
footprint DFN12 P0.5 T1.8X2.7 C3.0X3.0 H1.0 (SON, 12-Leads, Body 3.00x3.00mm, Pitch 0.50mm, Thermal Pad 2.70x1.8mm, IPC Medium Density)
pins: 1 VIN, 2 EN, 3 VCC, 4 GND, 5 SR, 6 PG, 7 BLEED, 8 VOUT, 9 VOUT, 10 VOUT, 11 VOUT, 12 VOUT, 13 VIN

## NE555
designator U?
Precision Timer; Value: *
footprint SO8 P1.27 C4.0X5.0 H1.75 (8-Pin Small Outline Integrated Circuit 1.27 mm Pitch, IPC Medium Density)
pins: 1 GND, 2 TRIG, 3 OUT, 4 RESET, 5 CONT, 6 THRES, 7 DIS, 8 VCC

## NLHV4051DR2G
designator U?
Analog  Multiplexers/Demultiplexers; Value: NLHV4051DR2G
footprint SO16 P1.27 C4.0x10.2 H1.75 (SOIC, 16-Leads, Body 4.0x10.20mm, Pitch 1.27mm, IPC Medium Density)
pins: 1 X4, 2 X6, 3 IN/OUT, 4 X7, 5 X5, 6 INHIBIT, 7 VEE, 8 VSS, 9 C, 10 B, 11 A, 12 X3, 13 X0, 14 X1, 15 X2, 16 VDD

## NXQ1TXH5
designator U?
One-chip 5 V Qi wireless transmitter; Value: NXQ1TXH5
footprint QFN32 P0.5 T3.2x3.2 C5.0X5.0 H1.0 (QFN32 Pitch 0.5mm, Thermal pad 3.2x3.2mm, Body 5X5mm, Heigh 1.0mm)
pins: 1 CNF2, 2 CNF3, 3 SDA, 4 SCL, 5 BUZZER, 6 CNF4, 7 LED_G, 8 LED_R, 9 CNF_IN, 10 ASEN1, 11 VSEN, 12 NTC, 13 ASEN2, 14 STBY, 15 VDDP2, 16 VDDP2, 17 OUT2, 18 OUT2, 19 GNDP, 20 GNDP, 21 GNDP, 22 GNDP, 23 OUT1, 24 OUT1, 25 VDDP1, 26 VDDP1, 27 GNDD, 28 CDEC, 29 XTAL_IN, 30 XTAL_OUT, 31 TEST, 32 CNF1, 33 EP

## PAC1934J6CX
designator U?
Four Channel DC Power/Energy Monitor with Accumulator; Value: PAC1934J6CX
footprint BGA16 P0.5 C2.2x2.2 H0.65 (BGA, 16-Leads, Body 2.2x2.2mm, Pitch 0.5mm)
pins: A1 SENSE2+, A2 SENSE1–, A3 SENES1+, A4 VDD, B1 SENSE2–, B2 VDDIO, B3 ~{PWRDN}, B4 GND, C1 SENSE3–, C2 ADDRSEL, C3 SLOW/~{ALERT}, C4 SM_CLK, D1 SENSE3+, D2 SENSE4–, D3 SENSE4+, D4 SM_DATA

## PAC1934JQ
designator U?
Four Channel DC Power/Energy Monitor with Accumulator; Value: PAC1934JQ
footprint QFN16 P0.65 T2.7x2.7 C4.0X4.0 H0.5
pins: 1 SLOW/~{ALERT}, 2 VDD, 3 GND, 4 SM_CLK, 5 SM_DATA, 6 ADDRSEL, 7 SENSE3–, 8 SENSE3+, 9 SENSE4–, 10 SENSE4+, 11 SENES1+, 12 SENSE1–, 13 SENSE2+, 14 SENSE2–, 15 VDDIO, 16 ~{PWRDN}, 17 EP

## PCA9306DCT_1
designator U?, comment PCA9306DCT
Dual Bidirectional I  2C Bus and SMBus Voltage-Level Translator; Value: PCA9306DCT
footprint uDFN8 P0.4 T1.45X0.8 C1.5X1.5 H0.5
pins: 1 ST, 2 D3, 3 D2, 4 D1, 5 VIN, 6 SCL, 7 SDA, 8 GND, 9 EP

## PCA9306DCU
designator U?
Dual Bidirectional I  2C Bus and SMBus Voltage-Level Translator; Value: PCA9306DCU
footprint VSSOP8 P0.65 C2.4X2.0 H0.9 (VSSO8 P0.65 C2.4X2.0 H0.9 Texas Instruments)
pins: 1 GND, 2 VREF1, 3 SCL1, 4 SDA1, 5 SDA2, 6 SCL2, 7 VREF2, 8 EN

## PCA9546ABS
designator U?
4-channel I2C-bus switch with reset; Value: PCA9546ABS
footprint QFN16 P0.65 T2.2x2.2 C4.0X4.0 H1.0
pins: 1 ~{RESET} "Active low reset input. Connect to VCC through a pullup resistor, if not used.", 2 SD0 "Serial data 0. Connect to VCC through a pullup resistor.", 3 SC0 "Serial clock 0. Connect to VCC through a pullup resistor.", 4 SD1 "Serial data 1. Connect to VCC through a pullup resistor.", 5 SC1 "Serial clock 1. Connect to VCC through a pullup resistor.", 6 VSS "Ground", 7 SD2 "Serial data 2. Connect to VCC through a pullup resistor.", 8 SC2 "Serial clock 2. Connect to VCC through a pullup resistor.", 9 SD3 "Serial data 3. Connect to VCC through a pullup resistor.", 10 SC3 "Serial clock 3. Connect to VCC through a pullup resistor.", 11 A2 "Address input 2. Connect directly to VCC or ground.", 12 SCL "Serial clock line. Connect to VCC through a pullup resistor.", 13 SDA "Serial data line. Connect to VCC through a pullup resistor.", 14 VDD "Supply power", 15 A0 "Address input 0. Connect directly to VCC or ground.", 16 A1 "Address input 1. Connect directly to VCC or ground.", 17 EP "Ground"

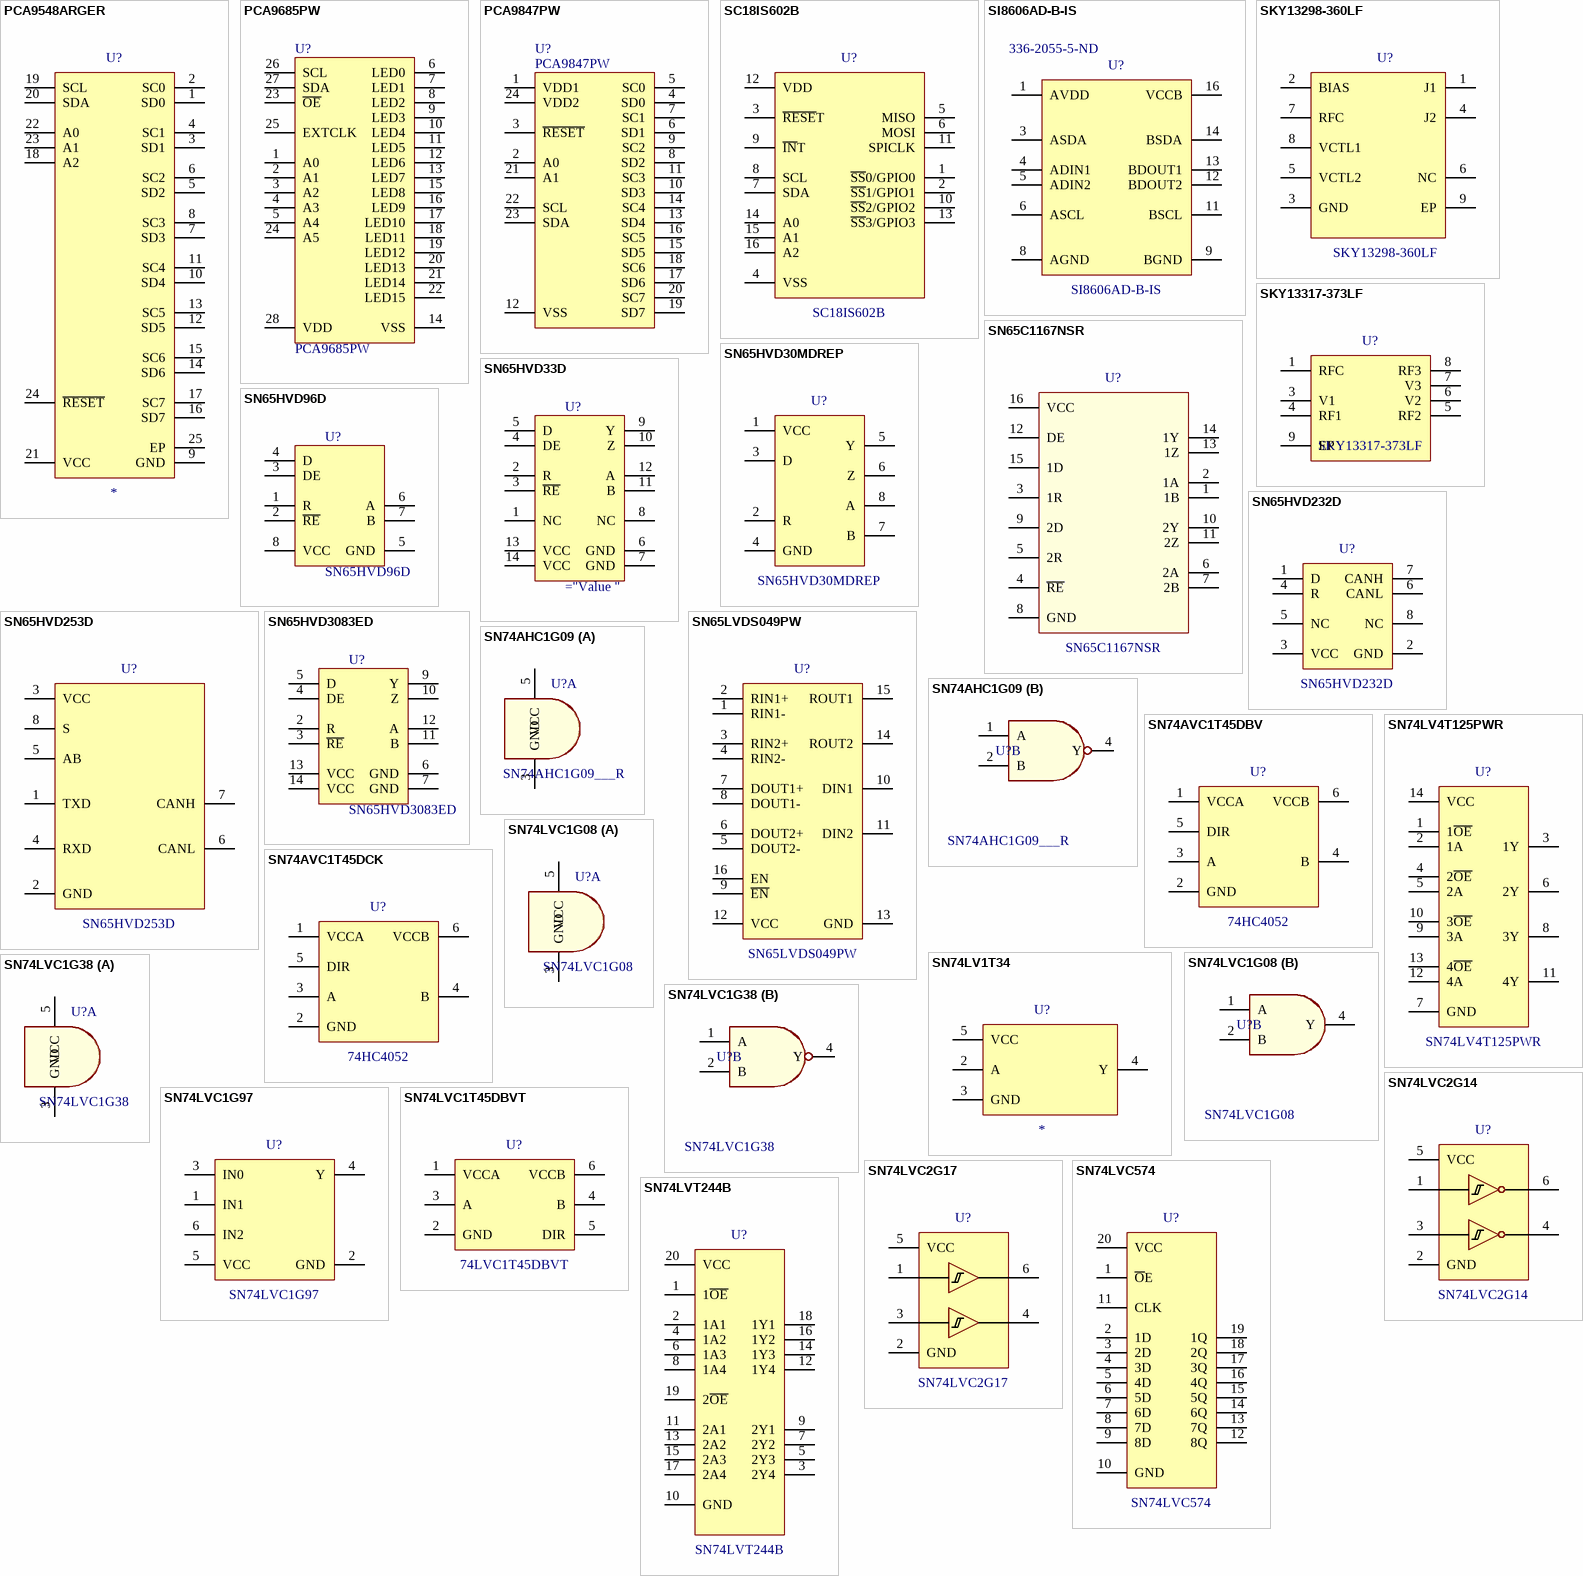
[diagram p7: symbols PCA9548ARGER to SN74LVT244B]

## PCA9548ARGER
designator U?
Low Voltage 8-Channel I2C Switch With Reset; Value: *
footprint QFN24 P0.5 T2.45X2.45 C4.0X4.0 H1.0 (QFN, 24-Leads, Body 4x4mm, Pitch 0.5mm, Thermal Pad 2.45x2.45mm, TI Recommended)
pins: 1 SD0 "Serial data 0. Connect to VCC through a pullup resistor.", 2 SC0 "Serial clock 0. Connect to VCC through a pullup resistor.", 3 SD1 "Serial data 1. Connect to VCC through a pullup resistor.", 4 SC1 "Serial clock 1. Connect to VCC through a pullup resistor.", 5 SD2 "Serial data 2. Connect to VCC through a pullup resistor.", 6 SC2 "Serial clock 2. Connect to VCC through a pullup resistor.", 7 SD3 "Serial data 3. Connect to VCC through a pullup resistor.", 8 SC3 "Serial clock 3. Connect to VCC through a pullup resistor.", 9 GND "Ground", 10 SD4 "Serial data 4. Connect to VCC through a pullup resistor.", 11 SC4 "Serial clock 4. Connect to VCC through a pullup resistor.", 12 SD5 "Serial data 5. Connect to VCC through a pullup resistor.", 13 SC5 "Serial clock 5. Connect to VCC through a pullup resistor.", 14 SD6 "Serial data 6. Connect to VCC through a pullup resistor.", 15 SC6 "Serial clock 6. Connect to VCC through a pullup resistor.", 16 SD7 "Serial data 7. Connect to VCC through a pullup resistor.", 17 SC7 "Serial clock 7. Connect to VCC through a pullup resistor.", 18 A2 "Address input 2. Connect directly to VCC or ground.", 19 SCL "Serial clock bus. Connect to VCC through a pullup resistor.", 20 SDA "Serial data bus. Connect to VCC through a pullup resistor.", 21 VCC "Supply voltage", 22 A0 "Address input 0. Connect directly to VCC or ground.", 23 A1 "Address input 1. Connect directly to VCC or ground.", 24 ~{RESET} "Active-low reset input. Connect to VCC through a pullup resistor, if not used.", 25 EP "Exposed Pad"

## PCA9685PW
designator U?
16-channel, 12-bit PWM Fm+ I2C-bus LED controller; Value: PCA9685PW
footprint TSSOP28 P0.65 C4.4x9.7 H1.2 (SOP, 28-Leads, Body 9.7x4.4mm, Pitch 0.65mm, IPC Medium Density)
pins: 1 A0 "address input 0", 2 A1 "address input 1", 3 A2 "address input 2", 4 A3 "address input 3", 5 A4 "address input 4", 6 LED0 "LED driver 0", 7 LED1 "LED driver 1", 8 LED2 "LED driver 2", 9 LED3 "LED driver 3", 10 LED4 "LED driver 4", 11 LED5 "LED driver 5", 12 LED6 "LED driver 6", 13 LED7 "LED driver 7", 14 VSS "supply ground", 15 LED8 "LED driver 8", 16 LED9 "LED driver 9", 17 LED10 "LED driver 10", 18 LED11 "LED driver 11", 19 LED12 "LED driver 12", 20 LED13 "LED driver 13", 21 LED14 "LED driver 14", 22 LED15 "LED driver 15", 23 ~{OE} "active LOW output enable", 24 A5 "address input 5", 25 EXTCLK "external clock input", 26 SCL "serial clock line", 27 SDA "serial data line", 28 VDD "supply voltage"

## PCA9847PW
designator U?
8-channel ultra-low voltage, Fm+ I2C-bus multiplexer; Value: PCA9847PW
footprint TSSOP24 P0.65 C4.4X7.8 H1.2 (TSOP, 24-Leads, Body 7.8x4.4mm, Pitch 0.65mm, IPC Medium Density)
pins: 1 VDD1, 2 A0, 3 ~{RESET}, 4 SD0, 5 SC0, 6 SD1, 7 SC1, 8 SD2, 9 SC2, 10 SD3, 11 SC3, 12 VSS, 13 SD4, 14 SC4, 15 SD5, 16 SC5, 17 SD6, 18 SC6, 19 SD7, 20 SC7, 21 A1, 22 SCL, 23 SDA, 24 VDD2

## SC18IS602B
designator U?
Dual 4 Channel analogue multiplexer/demultiplexer; Value: SC18IS602B
footprint TSSOP16 P0.65 C5.0x4.5 H1.1 (TSSOP-16 NXP)
pins: 1 ~{SS}0/GPIO0, 2 ~{SS}1/GPIO1, 3 ~{RESE}T, 4 VSS, 5 MISO, 6 MOSI, 7 SDA, 8 SCL, 9 ~{IN}T, 10 ~{SS}2/GPIO2, 11 SPICLK, 12 VDD, 13 ~{SS}3/GPIO3, 14 A0, 15 A1, 16 A2

## SI8606AD-B-IS
designator U?  Supplier Part Number 1: 336-2055-5-ND
Bidirectional I2C Isolators with Unidirectional Digital Channels; Value: SI8606AD-B-IS; Supplier 1: Digi-Key
footprint SO16W P1.27 C7.5x10.2 H2.65 (SOIC WIDE, 16-Leads, Body 10.20x7.50mm, Pitch 1.27mm, IPC Medium Density)
pins: 1 AVDD, 2 NC hidden, 3 ASDA, 4 ADIN1, 5 ADIN2, 6 ASCL, 7 NC hidden, 8 AGND, 9 BGND, 10 NC hidden, 11 BSCL, 12 BDOUT2, 13 BDOUT1, 14 BSDA, 15 NC hidden, 16 VCCB

## SKY13298-360LF
designator U?
Ultra Wideband Switch 3-8GHz; Value: SKY13298-360LF
footprint DFN8 P0.5 T0.9X1.7 C2.0X2.0 H1.0 (SON, 12-Leads, Body 3.00x3.00mm, Pitch 0.50mm, Thermal Pad 1.70x0.9mm, IPC Medium Density)
pins: 1 J1, 2 BIAS, 3 GND, 4 J2, 5 VCTL2, 6 NC, 7 RFC, 8 VCTL1, 9 EP

## SKY13317-373LF
designator U?
20 MHz to 6.0 GHz pHEMT GaAs SP3T Switch; Value: SKY13317-373LF
footprint MLP8 P0.4 T0.7X1.2 C1.5X1.5 H0.5 (Footprint not found)
pins: 1 RFC, 3 V1, 4 RF1, 5 RF2, 6 V2, 7 V3, 8 RF3, 9 EP

## SN65C1167NSR
designator U?
Dual Differential Line Driver and Receiver Pairs; Manufacturer: Texas Instruments; Value: SN65C1167NSR; Mouser No.: 595-SN65C1167NSR
footprint SO16NS P1.27 C5.4x10.2 H2.00 (SOIC, 16-Leads, Body 10.20x5.30mm, Pitch 1.27mm, IPC Medium Density)
pins: 1 1B "Source Terminal. Can be an input or output.", 2 1A "Drain Terminal. Can be an input or output.", 3 1R "Ground (0 V) Reference.", 4 ~{RE} "Drain Terminal. Can be an input or output.", 5 2R "Source Terminal. Can be an input or output.", 6 2A "Source Terminal. Can be an input or output.", 7 2B "Logic Control Input.", 8 GND "Source Terminal. Can be an input or output.", 9 2D "Drain Terminal. Can be an input or output.", 10 2Y "Source Terminal. Can be an input or output.", 11 2Z "Drain Terminal. Can be an input or output.", 12 DE "Source Terminal. Can be an input or output.", 13 1Z "Most Positive Power Supply Potential.", 14 1Y "Source Terminal. Can be an input or output.", 15 1D "Logic Control Input.", 16 VCC "Source Terminal. Can be an input or output."

## SN65HVD30MDREP
designator U?
+/-3.3-V FULL-DUPLEX RS-485 DRIVERS AND RECEIVERS; Value: SN65HVD30MDREP
footprint SO8 P1.27 C4.0X5.0 H1.75 (8-Pin Small Outline Integrated Circuit 1.27 mm Pitch, IPC Medium Density)
pins: 1 VCC, 2 R, 3 D, 4 GND, 5 Y, 6 Z, 7 B, 8 A

## SN65HVD33D
designator U?
3V3 Full Duplex RS-485 Drivers and Receivers; Value: SN65HVD33D
footprint SO14 P1.27 C4.0X8.8 H1.75 (SOIC, 14-Leads, Body 4.0X8.8mm, Pitch 1.27mm, IPC Medium Density)
pins: 1 NC, 2 R, 3 ~{RE}, 4 DE, 5 D, 6 GND, 7 GND, 8 NC, 9 Y, 10 Z, 11 B, 12 A, 13 VCC, 14 VCC

## SN65HVD96D
designator U?
SymPol Transceiver; Value: SN65HVD96D
footprint SO8 P1.27 C4.0X5.0 H1.75 (8-Pin Small Outline Integrated Circuit 1.27 mm Pitch, IPC Medium Density)
pins: 1 R, 2 ~{RE}, 3 DE, 4 D, 5 GND, 6 A, 7 B, 8 VCC

## SN65HVD232D
designator U?
CAN Bus Transceiver 3V3; Value: SN65HVD232D
footprint SO8 P1.27 C4.0X5.0 H1.75 (8-Pin Small Outline Integrated Circuit 1.27 mm Pitch, IPC Medium Density)
pins: 1 D "Driver input", 2 GND "Ground", 3 VCC "Supply voltage", 4 R "Receiver output", 5 NC "No connection", 6 CANL "Low bus output", 7 CANH "High bus outpu", 8 NC "No connection"

## SN65HVD253D
designator U?
CAN Transceiver; Value: SN65HVD253D
footprint SO8 P1.27 C4.0X5.0 H1.75 (8-Pin Small Outline Integrated Circuit 1.27 mm Pitch, IPC Medium Density)
pins: 1 TXD, 2 GND, 3 VCC, 4 RXD, 5 AB, 6 CANL, 7 CANH, 8 S

## SN65HVD3083ED
designator U?
Low power RS-485 Full-Duplex Drivers/Receivers; Value: SN65HVD3083ED
footprint SO14 P1.27 C4.0X8.8 H1.75 (SOIC, 14-Leads, Body 4.0X8.8mm, Pitch 1.27mm, IPC Medium Density)
pins: 2 R, 3 ~{RE}, 4 DE, 5 D, 6 GND, 7 GND, 9 Y, 10 Z, 11 B, 12 A, 13 VCC, 14 VCC

## SN65LVDS049PW
designator U?
Dual-LVDS Differential Drivers and Receivers; Value: SN65LVDS049PW
footprint TSSOP16 P0.65 C5.0x4.5 H1.1 (TSSOP-16 NXP)
pins: 1 RIN1-, 2 RIN1+, 3 RIN2+, 4 RIN2-, 5 DOUT2-, 6 DOUT2+, 7 DOUT1+, 8 DOUT1-, 9 ~{EN}, 10 DIN1, 11 DIN2, 12 VCC, 13 GND, 14 ROUT2, 15 ROUT1, 16 EN

## SN74AHC1G09
designator U?, comment SN74AHC1G09___R
Single 2–Input Positive-AND Gate With Open-Drain Output; Value: SN74AHC1G09___R
footprint SOT23-5 P0.95 C1.6x3.0 H1.3 (SOT23, 5-Leads, Body 1.6x3.0mm, Pitch 0.95mm, IPC Medium Density)
footprint SC70-5 P0.65 C1.4x2.2 H1.0 (SC70, 5-Leads, Body 2.2x1.40mm, Pitch 0.65mm, IPC Medium Density)
part A pins: 3 GND, 5 VCC
part B pins: 1 A, 2 B, 4 Y

## SN74AVC1T45DBV
designator U?, comment 74HC4052
Single-Bit Dual-Supply Bus Transceiver; Value: 74HC4052
footprint SOT23-6 P0.95 C1.5x3.0 H1.3 (SOT23, 6-Leads, Body 1.6x3.0mm, Pitch 0.95mm, IPC Medium Density)
pins: 1 VCCA, 2 GND, 3 A, 4 B, 5 DIR, 6 VCCB

## SN74AVC1T45DCK
designator U?, comment 74HC4052
Single-Bit Dual-Supply Bus Transceiver; Value: 74HC4052
footprint SC70-6 P0.65 C1.4x2.2 H1.0 (SC70, 6-Leads, Body 2.2x1.40mm, Pitch 0.65mm, IPC Medium Density)
pins: 1 VCCA, 2 GND, 3 A, 4 B, 5 DIR, 6 VCCB

## SN74LV1T34
designator U?
Single Power Supply Single Buffer GATE; Value: *
footprint SC70-5 P0.65 C1.4x2.2 H1.0 (SC70, 5-Leads, Body 2.2x1.40mm, Pitch 0.65mm, IPC Medium Density)
footprint SOT23-5 P0.95 C1.6x3.0 H1.3 (SOT23, 5-Leads, Body 1.6x3.0mm, Pitch 0.95mm, IPC Medium Density)
pins: 2 A, 3 GND, 4 Y, 5 VCC

## SN74LV4T125PWR
designator U?
Buffers & Line Drivers SGL Pwr Supply Quad Buffer GATE; Manufacturer: Texas Instruments; Value: SN74LV4T125PWR; Mouser No.: 595-SN74LV4T125PWR
footprint TSSOP14 P0.65 C4.4x5.0 H1.1 (TSSOP, 14-Leads, Body 5x4.4mm, Pitch 0.65mm, IPC Medium Density)
pins: 1 1~{OE}, 2 1A, 3 1Y, 4 2~{OE}, 5 2A, 6 2Y, 7 GND, 8 3Y, 9 3A, 10 3~{OE}, 11 4Y, 12 4A, 13 4~{OE}, 14 VCC

## SN74LVC1G08
designator U?
Single 2-Input Positive-AND Gate; Value: SN74LVC1G08
footprint SOT23-5 P0.95 C1.6x3.0 H1.3 (SOT23, 5-Leads, Body 1.6x3.0mm, Pitch 0.95mm, IPC Medium Density)
footprint SC70-5 P0.65 C1.4x2.2 H1.0 (SC70, 5-Leads, Body 2.2x1.40mm, Pitch 0.65mm, IPC Medium Density)
part A pins: 3 GND, 5 VCC
part B pins: 1 A, 2 B, 4 Y

## SN74LVC1G38
designator U?
Single 2–Input NAND Gate With Open-Drain Output; Value: SN74LVC1G38
footprint SOT23-5 P0.95 C1.6x3.0 H1.3 (SOT23, 5-Leads, Body 1.6x3.0mm, Pitch 0.95mm, IPC Medium Density)
footprint SC70-5 P0.65 C1.4x2.2 H1.0 (SC70, 5-Leads, Body 2.2x1.40mm, Pitch 0.65mm, IPC Medium Density)
part A pins: 3 GND, 5 VCC
part B pins: 1 A, 2 B, 4 Y

## SN74LVC1G97
designator U?
Configurable Multiple-Function Gate; Value: SN74LVC1G97
footprint SOT23-6 P0.95 C1.5x3.0 H1.3 (SOT23, 6-Leads, Body 1.6x3.0mm, Pitch 0.95mm, IPC Medium Density)
pins: 1 IN1, 2 GND, 3 IN0, 4 Y, 5 VCC, 6 IN2

## SN74LVC1T45DBVT
designator U?, comment 74LVC1T45DBVT
Translation - Voltage Levels SNGL Bit Dual Supply Bus Transceiver; Value: 74LVC1T45DBVT
footprint SOT23-6 P0.95 C1.5x3.0 H1.3 (SOT23, 6-Leads, Body 1.6x3.0mm, Pitch 0.95mm, IPC Medium Density)
pins: 1 VCCA, 2 GND, 3 A, 4 B, 5 DIR, 6 VCCB

## SN74LVC2G14
designator U?
Dual Schmitt-Trigger Inverter; Value: SN74LVC2G14
footprint SOT23-6 P0.95 C1.5x3.0 H1.3 (SOT23, 6-Leads, Body 1.6x3.0mm, Pitch 0.95mm, IPC Medium Density)
pins: 1 1A, 2 GND, 3 2A, 4 2Y, 5 VCC, 6 1Y

## SN74LVC2G17
designator U?
Dual Schmitt-Trigger Buffer; Value: SN74LVC2G17
footprint SOT23-6 P0.95 C1.5x3.0 H1.3 (SOT23, 6-Leads, Body 1.6x3.0mm, Pitch 0.95mm, IPC Medium Density)
pins: 1 1A, 2 GND, 3 2A, 4 2Y, 5 VCC, 6 1Y

## SN74LVC574
designator U?
OCTAL EDGE-TRIGGERED D-TYPE FLIP-FLOPS; Value: SN74LVC574
footprint TSSOP20 P0.65 C6.6X4.4 H1.2 (TSOP, 20-Leads, Body 6.60x4.40mm, Pitch 0.65mm, IPC Medium Density)
footprint SO20 P1.27 C7.5X12.8 H2.7 (SOIC, 20-Leads, Body 12.80x7.50mm, Pitch 1.27mm, IPC Medium Density)
pins: 1 ~{O}E, 2 1D, 3 2D, 4 3D, 5 4D, 6 5D, 7 6D, 8 7D, 9 8D, 10 GND, 11 CLK, 12 8Q, 13 7Q, 14 6Q, 15 5Q, 16 4Q, 17 3Q, 18 2Q, 19 1Q, 20 VCC

## SN74LVT244B
designator U?
3.3-V ABT OCTAL BUFFER/DRIVER  WITH 3-STATE OUTPUTS; Value: SN74LVT244B
footprint TSSOP20 P0.65 C6.6X4.4 H1.2 (TSOP, 20-Leads, Body 6.60x4.40mm, Pitch 0.65mm, IPC Medium Density)
footprint SO20 P1.27 C7.5X12.8 H2.7 (SOIC, 20-Leads, Body 12.80x7.50mm, Pitch 1.27mm, IPC Medium Density)
pins: 1 1~{OE}, 2 1A1, 3 2Y4, 4 1A2, 5 2Y3, 6 1A3, 7 2Y2, 8 1A4, 9 2Y1, 10 GND, 11 2A1, 12 1Y4, 13 2A2, 14 1Y3, 15 2A3, 16 1Y2, 17 2A4, 18 1Y1, 19 2~{OE}, 20 VCC

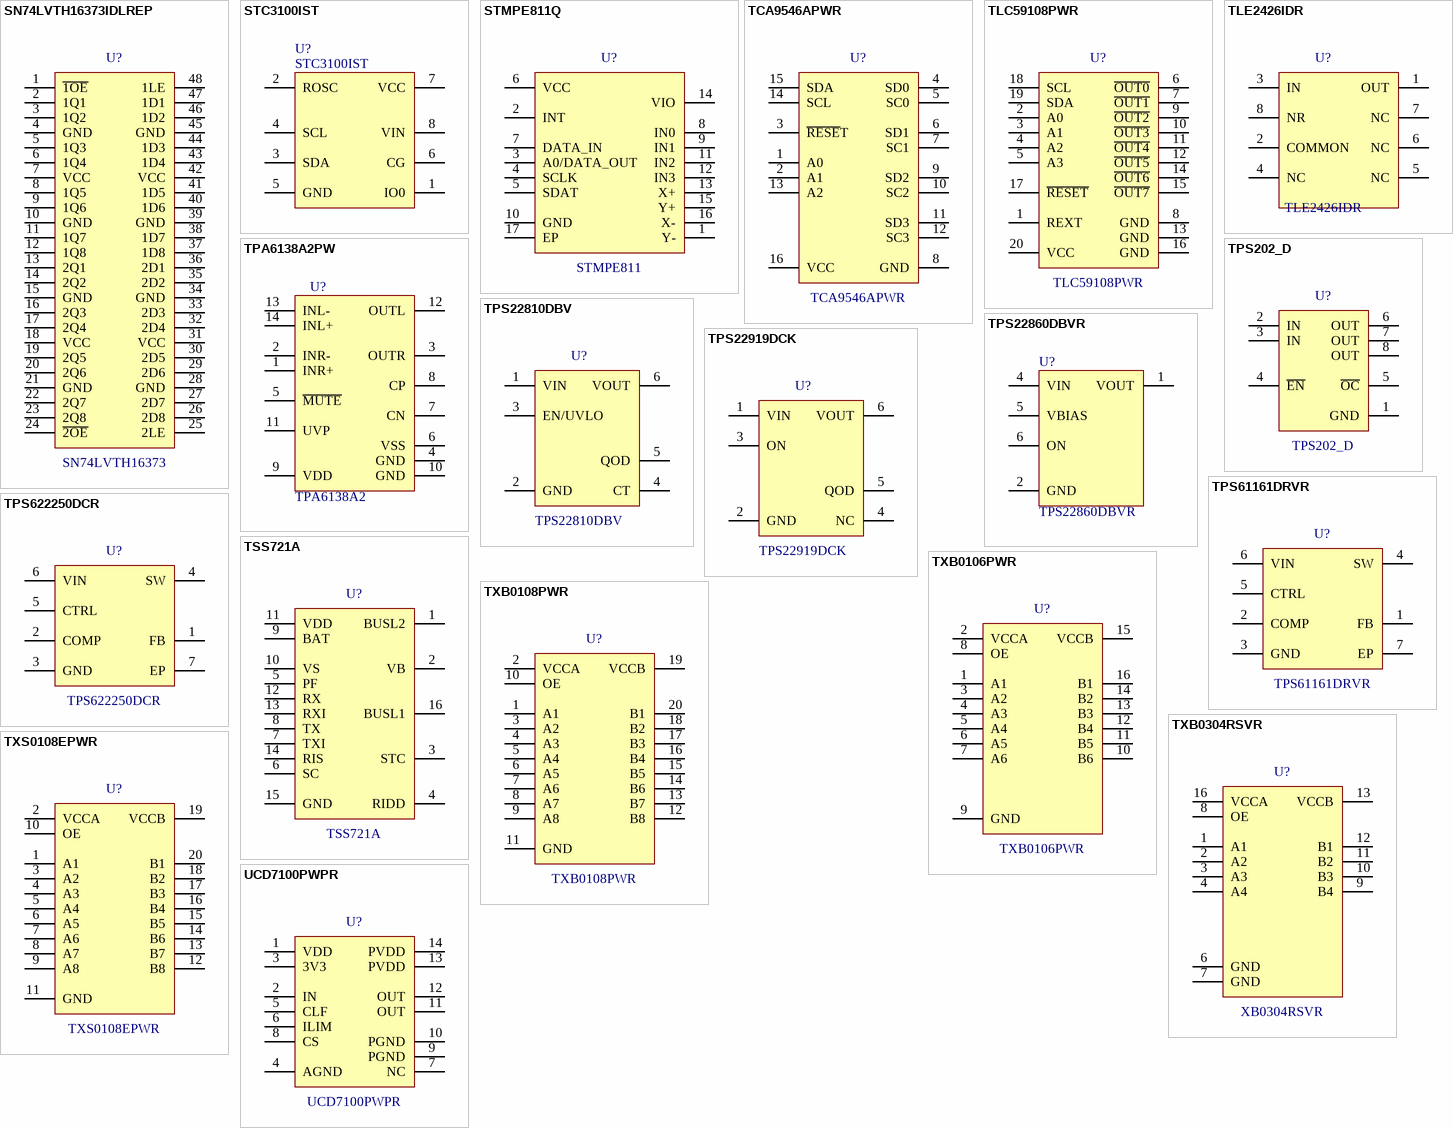
[diagram p8: symbols SN74LVTH16373IDLREP to UCD7100PWPR]

## SN74LVTH16373IDLREP
designator U?, comment SN74LVTH16373
Single-Bit Dual-Supply Bus Transceiver; Value: SN74LVTH16373
footprint SSOP48 P0.635 C7.6X16 H2.8 (SOP, 48-Leads, Body 16x7.6mm, Pitch 0.635mm, IPC Medium Density)
pins: 1 ~{1OE}, 2 1Q1, 3 1Q2, 4 GND, 5 1Q3, 6 1Q4, 7 VCC, 8 1Q5, 9 1Q6, 10 GND, 11 1Q7, 12 1Q8, 13 2Q1, 14 2Q2, 15 GND, 16 2Q3, 17 2Q4, 18 VCC, 19 2Q5, 20 2Q6, 21 GND, 22 2Q7, 23 2Q8, 24 ~{2OE}, 25 2LE, 26 2D8, 27 2D7, 28 GND, 29 2D6, 30 2D5, 31 VCC, 32 2D4, 33 2D3, 34 GND, 35 2D2, 36 2D1, 37 1D8, 38 1D7, 39 GND, 40 1D6, 41 1D5, 42 VCC, 43 1D4, 44 1D3, 45 GND, 46 1D2, 47 1D1, 48 1LE

## STC3100IST
designator U?
Battery monitor IC with Coulomb counter/gas gauge; Value: STC3100IST
footprint MSOP8 P0.65 C3.0X3.0 H1.1 (MSOP, 8-Leads, Body 3.00x3.00mm, Pitch 0.65mm, IPC Medium Density)
pins: 1 IO0, 2 ROSC, 3 SDA, 4 SCL, 5 GND, 6 CG, 7 VCC, 8 VIN

## STMPE811Q
designator U?, comment STMPE811
Advanced resistive touch screen controller  with 8-bit GPIO expander; Value: STMPE811
footprint QFN16 P0.5 T1.5x1.5 C3.0x3.0 H1.0
pins: 1 Y-, 2 INT, 3 A0/DATA_OUT, 4 SCLK, 5 SDAT, 6 VCC, 7 DATA_IN, 8 IN0, 9 IN1, 10 GND, 11 IN2, 12 IN3, 13 X+, 14 VIO, 15 Y+, 16 X-, 17 EP

## TCA9546APWR
designator U?
Low Voltage 4-Channel I2C and SMBus Switch with Reset Function; Value: TCA9546APWR
footprint TSSOP16 P0.65 C5.0x4.5 H1.1 (TSSOP-16 NXP)
pins: 1 A0, 2 A1, 3 ~{RESE}T, 4 SD0, 5 SC0, 6 SD1, 7 SC1, 8 GND, 9 SD2, 10 SC2, 11 SD3, 12 SC3, 13 A2, 14 SCL, 15 SDA, 16 VCC

## TLC59108PWR
designator U?
8-Bit Fm+ I  2C-Bus Constant-Current LED Sink Driver; Value: TLC59108PWR
footprint SSOP20 P0.65 C4.5x6.6 H1.2 (SSOP, 20-Leads, Body 4.5x6.6mm, Pitch 0.65mm, IPC Medium Density)
pins: 1 REXT "No internal connection", 2 A0 "Address input 0", 3 A1 "Address input 1", 4 A2 "Address input 2", 5 A3 "Address input 3", 6 ~{OUT0} "Constant current output 0, LED ON at low", 7 ~{OUT1} "Constant current output 1, LED ON at low", 8 GND "Ground", 9 ~{OUT2} "Constant current output 2, LED ON at low", 10 ~{OUT3} "Constant current output 3, LED ON at low", 11 ~{OUT4} "Constant current output 4, LED ON at low", 12 ~{OUT5} "Constant current output 5, LED ON at low", 13 GND "Ground", 14 ~{OUT6} "Constant current output 6, LED ON at low", 15 ~{OUT7} "Constant current output 7, LED ON at low", 16 GND "Ground", 17 ~{RESET} "Active-low reset input", 18 SCL "Serial clock input", 19 SDA "Serial data input/output", 20 VCC "Power supply"

## TLE2426IDR
designator U?
Références de tension Rail Virtual Ground; Manufacturer: Texas Instruments; Value: TLE2426IDR; Mouser No.: 595-TLE2426IDR
footprint SO8 P1.27 C4.0X5.0 H1.75 (8-Pin Small Outline Integrated Circuit 1.27 mm Pitch, IPC Medium Density)
pins: 1 OUT "Ground", 2 COMMON "Input voltage", 3 IN "Input voltage", 4 NC "Enable input. Logic-low turns on power switch.", 5 NC "Overcurrent. Logic output, active-low", 6 NC "Power-switch output", 7 NC "Power-switch output", 8 NR "Power-switch output"

## TPA6138A2PW
designator U?, comment TPA6138A2
DirectPath Headphone Driver With Adjustable Gain; Value: TPA6138A2
footprint TSSOP14 P0.65 C4.4x5.0 H1.1 (TSSOP, 14-Leads, Body 5x4.4mm, Pitch 0.65mm, IPC Medium Density)
pins: 1 INR+ "Right-channel OPAMP positive input", 2 INR- "Right-channel OPAMP negative input", 3 OUTR "Right-channel OPAMP output", 4 GND "Ground", 5 ~{MUTE} "Mute, active-low", 6 VSS "Supply voltage", 7 CN "Charge-pump flying capacitor negative connection", 8 CP "Charge-pump flying capacitor positive connection", 9 VDD "Positive supply", 10 GND "Ground", 11 UVP "Undervoltage protection; internal pull-up, unconnected if UVP function is unused.", 12 OUTL "Left-channel OPAMP output", 13 INL- "Left-channel OPAMP negative input", 14 INL+ "Left-channel OPAMP positive input"

## TPS202_D
designator U?
Power distribution switch; Value: TPS202_D
footprint SO8 P1.27 C4.0X5.0 H1.75 (8-Pin Small Outline Integrated Circuit 1.27 mm Pitch, IPC Medium Density)
pins: 1 GND "Ground", 2 IN "Input voltage", 3 IN "Input voltage", 4 ~{EN} "Enable input. Logic-low turns on power switch.", 5 ~{OC} "Overcurrent. Logic output, active-low", 6 OUT "Power-switch output", 7 OUT "Power-switch output", 8 OUT "Power-switch output"

## TPS22810DBV
designator U?
Load Switch With Thermal Protection; Value: TPS22810DBV
footprint SOT23-6 P0.95 C1.5x3.0 H1.3 (SOT23, 6-Leads, Body 1.6x3.0mm, Pitch 0.95mm, IPC Medium Density)
pins: 1 VIN "Ground", 2 GND "Input voltage", 3 EN/UVLO "Input voltage", 4 CT "Enable input. Logic-low turns on power switch.", 5 QOD "Overcurrent. Logic output, active-low", 6 VOUT "Power-switch output"

## TPS22860DBVR
designator U?
Ultra-Low Leakage Load Switch; Value: TPS22860DBVR
footprint SOT23-6 P0.95 C1.5x3.0 H1.3 (SOT23, 6-Leads, Body 1.6x3.0mm, Pitch 0.95mm, IPC Medium Density)
pins: 1 VOUT "Power-switch output", 2 GND "Input voltage", 4 VIN "Ground", 5 VBIAS "Overcurrent. Logic output, active-low", 6 ON "Input voltage"

## TPS22919DCK
designator U?
Load Switch, Self-Protected with Controlled Rise Time; Value: TPS22919DCK
footprint SC70-6 P0.65 C1.4x2.2 H1.0 (SC70, 6-Leads, Body 2.2x1.40mm, Pitch 0.65mm, IPC Medium Density)
pins: 1 VIN "Ground", 2 GND "Input voltage", 3 ON "Input voltage", 4 NC "Enable input. Logic-low turns on power switch.", 5 QOD "Overcurrent. Logic output, active-low", 6 VOUT "Power-switch output"

## TPS61161DRVR
designator U?
White LED Drivers With Digital and PWM Brightness Control; Value: TPS61161DRVR
footprint WSON6  P0.65 T1.6X1.0 C2.0X2.0 H0.8 (6-Pin Wide Small Outline Integrated Circuit 0.65mm Pitch)
pins: 1 FB, 2 COMP, 3 GND, 4 SW, 5 CTRL, 6 VIN, 7 EP

## TPS622250DCR
designator U?
White LED Drivers With Digital and PWM Brightness Control; Value: TPS622250DCR
footprint WSON6  P0.65 T1.6X1.0 C2.0X2.0 H0.8 (6-Pin Wide Small Outline Integrated Circuit 0.65mm Pitch)
pins: 1 FB, 2 COMP, 3 GND, 4 SW, 5 CTRL, 6 VIN, 7 EP

## TSS721A
designator U?
Meter-Bus Transceiver; Value: TSS721A
footprint SO16 P1.27 C4.0x10.2 H1.75 (SOIC, 16-Leads, Body 4.0x10.20mm, Pitch 1.27mm, IPC Medium Density)
pins: 1 BUSL2, 2 VB, 3 STC, 4 RIDD, 5 PF, 6 SC, 7 TXI, 8 TX, 9 BAT, 10 VS, 11 VDD, 12 RX, 13 RXI, 14 RIS, 15 GND, 16 BUSL1

## TXB0106PWR
designator U?
6-Bit Bidirectional Level-Shifting and Voltage Translator / With Auto-Direction Sensing and ±15-kV ESD Protection; Value: TXB0106PWR
footprint TSSOP16 P0.65 C5.0x4.5 H1.1 (TSSOP-16 NXP)
pins: 1 A1, 2 VCCA, 3 A2, 4 A3, 5 A4, 6 A5, 7 A6, 8 OE, 9 GND, 10 B6, 11 B5, 12 B4, 13 B3, 14 B2, 15 VCCB, 16 B1

## TXB0108PWR
designator U?
8-Bit Bidirectional Voltage-Level Translator with Auto-Direction Sensing and  ±15-kV ESD Protection; Value: TXB0108PWR
footprint TSSOP20 P0.65 C6.6X4.4 H1.2 (TSOP, 20-Leads, Body 6.60x4.40mm, Pitch 0.65mm, IPC Medium Density)
pins: 1 A1, 2 VCCA, 3 A2, 4 A3, 5 A4, 6 A5, 7 A6, 8 A7, 9 A8, 10 OE, 11 GND, 12 B8, 13 B7, 14 B6, 15 B5, 16 B4, 17 B3, 18 B2, 19 VCCB, 20 B1

## TXB0304RSVR
designator U?, comment XB0304RSVR
4-Bit Bidirectional Level-Shifter/Voltage Translator with Automatic Direction  Sensing; Value: XB0304RSVR
footprint QFN16 P0.4 C1.8x2.6 H0.55 (QFN, 16-Leads, Body 1.8x2.6mm, Pitch 0.4mm, TI Recommended)
pins: 1 A1, 2 A2, 3 A3, 4 A4, 6 GND, 7 GND, 8 OE, 9 B4, 10 B3, 11 B2, 12 B1, 13 VCCB, 16 VCCA

## TXS0108EPWR
designator U?
TXS0108E 8-Bit Bi-directional, Level-Shifting, Voltage Translator  for Open-Drain and Push-Pull Applications; Value: TXS0108EPWR
footprint TSSOP20 P0.65 C6.6X4.4 H1.2 (TSOP, 20-Leads, Body 6.60x4.40mm, Pitch 0.65mm, IPC Medium Density)
pins: 1 A1, 2 VCCA, 3 A2, 4 A3, 5 A4, 6 A5, 7 A6, 8 A7, 9 A8, 10 OE, 11 GND, 12 B8, 13 B7, 14 B6, 15 B5, 16 B4, 17 B3, 18 B2, 19 VCCB, 20 B1

## UCD7100PWPR
designator U?
Gate Drivers Digital Control Compatible Single; Manufacturer: Texas Instruments; Value: UCD7100PWPR; Mouser No.: 595-UCD7100PWPR
footprint HTSSOP14 P0.65 C4.4X5.0 (HTSOP, 14-Leads, Body 5.00x4.40mm, Pitch 0.65mm, Thermal Pad 2.31x2.46mm)
pins: 1 VDD "Input voltage", 2 IN "Input voltage", 3 3V3 "Enable input. Logic-low turns on power switch.", 4 AGND "Power-switch output", 5 CLF "Power-switch output", 6 ILIM "Power-switch output", 7 NC "Power-switch output", 8 CS "Overcurrent. Logic output, active-low", 9 PGND "Power-switch output", 10 PGND "Power-switch output", 11 OUT "Power-switch output", 12 OUT "Power-switch output", 13 PVDD "Power-switch output", 14 PVDD "Power-switch output"

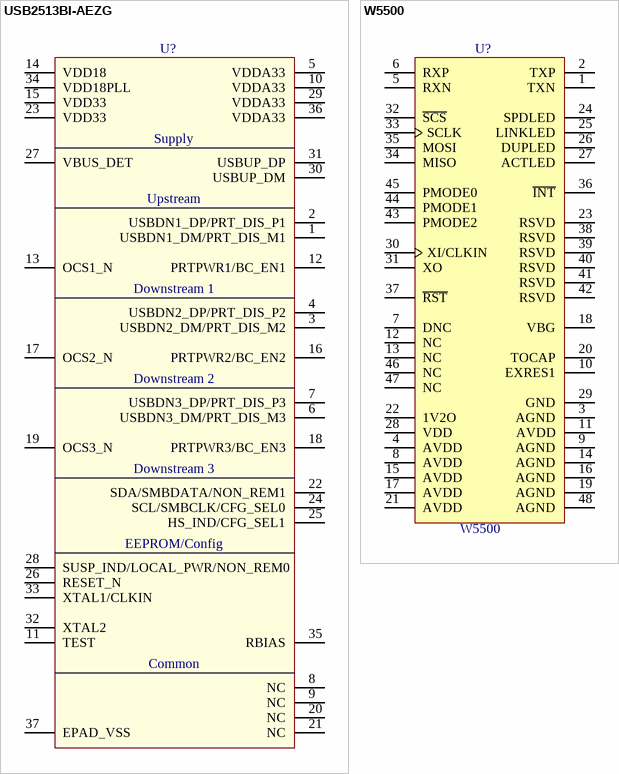
[diagram p9: symbols USB2513BI-AEZG to W5500]